# Altium integrated library Motorola Microcontroller 32-Bit.IntLib: 337 symbols (part 22 of 29)
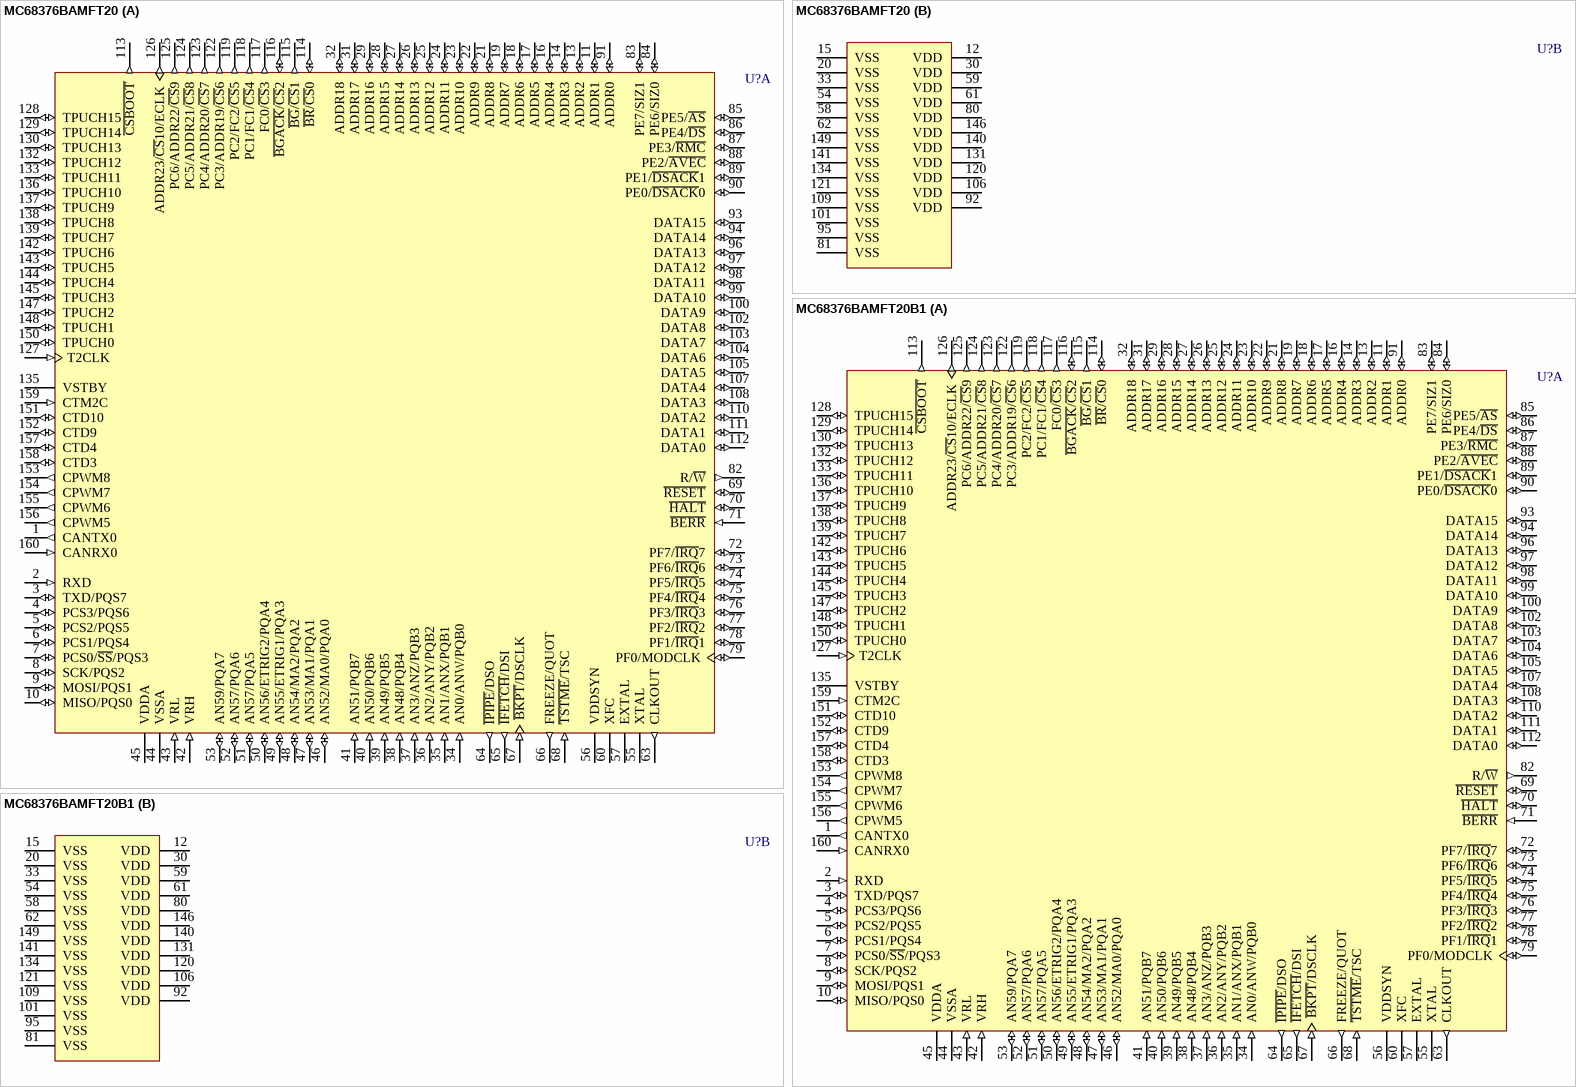
[diagram p260: symbols MC68376BAMFT20 to MC68376BAMFT20B1]

## MC68376BAMFT20
designator U?
32-Bit Microcontroller; Published: 21-Mar-2003; LatestRevisionDate: 13-Apr-2006; LatestRevisionNote: IPC-7351 Footprint Added.; DatasheetVersion: 15-Oct-2000; PackageVersion: 1996; PackageReference: 864A-03; Publisher: Altium Limited; PackageDescription: 160-Pin Plastic Quad Flat Pack 0.65 mm Pitch; Code_IPC: QFP65P3120X3120-160; ComponentLink1Description: Manufacturer Link; ComponentLink1URL: http://www.freescale.com/; ComponentLink2Description: Datasheet; ComponentLink2URL: http://www.freescale.com/files/microcontrollers/doc/data_sheet/MC683336_376UM_ZIP.zip
footprint 864A-03_N (QFP, 160-Leads, Body 28 x 28mm, Pitch 0.65mm, IPC Medium Density)
footprint 864A-03_L (QFP, 160-Leads, Body 28 x 28mm, Pitch 0.65mm, IPC High Density)
footprint 864A-03_M (QFP, 160-Leads, Body 28 x 28mm, Pitch 0.65mm, IPC Low Density)
3D model MC68376-864A-03 (160-Pin Plastic Quad Flat Pack 0.65 mm Pitch)
part A pins: 1 CANTX0 (out), 2 RXD (in), 3 TXD/PQS7 (io), 4 PCS3/PQS6 (io), 5 PCS2/PQS5 (io), 6 PCS1/PQS4 (io), 7 PCS0/~{SS}/PQS3 (io), 8 SCK/PQS2 (io), 9 MOSI/PQS1 (io), 10 MISO/PQS0 (io), 11 ADDR1 (io), 13 ADDR2 (io), 14 ADDR3 (io), 16 ADDR4 (io), 17 ADDR5 (io), 18 ADDR6 (io), 19 ADDR7 (io), 21 ADDR8 (io), 22 ADDR9 (io), 23 ADDR10 (io), 24 ADDR11 (io), 25 ADDR12 (io), 26 ADDR13 (io), 27 ADDR14 (io), 28 ADDR15 (io), 29 ADDR16 (io), 31 ADDR17 (io), 32 ADDR18 (io), 34 AN0/ANW/PQB0 (in), 35 AN1/ANX/PQB1 (in), 36 AN2/ANY/PQB2 (in), 37 AN3/ANZ/PQB3 (in), 38 AN48/PQB4 (in), 39 AN49/PQB5 (in), 40 AN50/PQB6 (in), 41 AN51/PQB7 (in), 42 VRH (in), 43 VRL (in), 44 VSSA (power), 45 VDDA (power), 46 AN52/MA0/PQA0 (io), 47 AN53/MA1/PQA1 (io), 48 AN54/MA2/PQA2 (io), 49 AN55/ETRIG1/PQA3 (io), 50 AN56/ETRIG2/PQA4 (io), 51 AN57/PQA5 (io), 52 AN57/PQA6 (io), 53 AN59/PQA7 (io), 55 XTAL, 56 VDDSYN (power), 57 EXTAL, 60 XFC, 63 CLKOUT (out), 64 ~{IPIPE}/DSO (out), 65 ~{IFETCH}/DSI (out), 66 FREEZE/QUOT (out), 67 ~{BKPT}/DSCLK (in), 68 ~{TSTME}/TSC (in), 69 ~{RESET} (io), 70 ~{HALT} (io), 71 ~{BERR} (in), 72 PF7/~{IRQ}7 (io), 73 PF6/~{IRQ}6 (io), 74 PF5/~{IRQ}5 (io), 75 PF4/~{IRQ}4 (io), 76 PF3/~{IRQ}3 (io), 77 PF2/~{IRQ}2 (io), 78 PF1/~{IRQ}1 (io), 79 PF0/MODCLK (io), 82 R/~{W} (out), 83 PE7/SIZ1 (io), 84 PE6/SIZ0 (io), 85 PE5/~{AS} (io), 86 PE4/~{DS} (io), 87 PE3/~{RMC} (io), 88 PE2/~{AVEC} (io), 89 PE1/~{DSACK}1 (io), 90 PE0/~{DSACK}0 (io), 91 ADDR0 (io), 93 DATA15 (io), 94 DATA14 (io), 96 DATA13 (io), 97 DATA12 (io), 98 DATA11 (io), 99 DATA10 (io), 100 DATA9 (io), 102 DATA8 (io), 103 DATA7 (io), 104 DATA6 (io), 105 DATA5 (io), 107 DATA4 (io), 108 DATA3 (io), 110 DATA2 (io), 111 DATA1 (io), 112 DATA0 (io), 113 ~{CSBOOT} (out), 114 ~{BR}/~{CS}0 (io), 115 ~{BG}/~{CS}1 (out), 116 ~{BGACK}/~{CS}2 (io), 117 FC0/~{CS}3 (out), 118 PC1/FC1/~{CS}4 (out), 119 PC2/FC2/~{CS}5 (out), 122 PC3/ADDR19/~{CS}6 (out), 123 PC4/ADDR20/~{CS}7 (out), 124 PC5/ADDR21/~{CS}8 (out), 125 PC6/ADDR22/~{CS}9 (out), 126 ADDR23/~{CS}10/ECLK (out), 127 T2CLK (in), 128 TPUCH15 (io), 129 TPUCH14 (io), 130 TPUCH13 (io), 132 TPUCH12 (io), 133 TPUCH11 (io), 135 VSTBY (power), 136 TPUCH10 (io), 137 TPUCH9 (io), 138 TPUCH8 (io), 139 TPUCH7 (io), 142 TPUCH6 (io), 143 TPUCH5 (io), 144 TPUCH4 (io), 145 TPUCH3 (io), 147 TPUCH2 (io), 148 TPUCH1 (io), 150 TPUCH0 (io), 151 CTD10 (io), 152 CTD9 (io), 153 CPWM8 (out), 154 CPWM7 (out), 155 CPWM6 (out), 156 CPWM5 (out), 157 CTD4 (io), 158 CTD3 (io), 159 CTM2C (in), 160 CANRX0 (in)
part B pins: 12 VDD (power), 15 VSS (power), 20 VSS (power), 30 VDD (power), 33 VSS (power), 54 VSS (power), 58 VSS (power), 59 VDD (power), 61 VDD (power), 62 VSS (power), 80 VDD (power), 81 VSS (power), 92 VDD (power), 95 VSS (power), 101 VSS (power), 106 VDD (power), 109 VSS (power), 120 VDD (power), 121 VSS (power), 131 VDD (power), 134 VSS (power), 140 VDD (power), 141 VSS (power), 146 VDD (power), 149 VSS (power)

## MC68376BAMFT20B1
designator U?
32-Bit Microcontroller; Published: 21-Mar-2003; LatestRevisionDate: 13-Apr-2006; LatestRevisionNote: IPC-7351 Footprint Added.; DatasheetVersion: 15-Oct-2000; PackageVersion: 1996; PackageReference: 864A-03; Publisher: Altium Limited; PackageDescription: 160-Pin Plastic Quad Flat Pack 0.65 mm Pitch; Code_IPC: QFP65P3120X3120-160; ComponentLink1Description: Manufacturer Link; ComponentLink1URL: http://www.freescale.com/; ComponentLink2Description: Datasheet; ComponentLink2URL: http://www.freescale.com/files/microcontrollers/doc/data_sheet/MC683336_376UM_ZIP.zip
footprint 864A-03_N (QFP, 160-Leads, Body 28 x 28mm, Pitch 0.65mm, IPC Medium Density)
footprint 864A-03_L (QFP, 160-Leads, Body 28 x 28mm, Pitch 0.65mm, IPC High Density)
footprint 864A-03_M (QFP, 160-Leads, Body 28 x 28mm, Pitch 0.65mm, IPC Low Density)
3D model MC68376-864A-03 (160-Pin Plastic Quad Flat Pack 0.65 mm Pitch)
part A pins: 1 CANTX0 (out), 2 RXD (in), 3 TXD/PQS7 (io), 4 PCS3/PQS6 (io), 5 PCS2/PQS5 (io), 6 PCS1/PQS4 (io), 7 PCS0/~{SS}/PQS3 (io), 8 SCK/PQS2 (io), 9 MOSI/PQS1 (io), 10 MISO/PQS0 (io), 11 ADDR1 (io), 13 ADDR2 (io), 14 ADDR3 (io), 16 ADDR4 (io), 17 ADDR5 (io), 18 ADDR6 (io), 19 ADDR7 (io), 21 ADDR8 (io), 22 ADDR9 (io), 23 ADDR10 (io), 24 ADDR11 (io), 25 ADDR12 (io), 26 ADDR13 (io), 27 ADDR14 (io), 28 ADDR15 (io), 29 ADDR16 (io), 31 ADDR17 (io), 32 ADDR18 (io), 34 AN0/ANW/PQB0 (in), 35 AN1/ANX/PQB1 (in), 36 AN2/ANY/PQB2 (in), 37 AN3/ANZ/PQB3 (in), 38 AN48/PQB4 (in), 39 AN49/PQB5 (in), 40 AN50/PQB6 (in), 41 AN51/PQB7 (in), 42 VRH (in), 43 VRL (in), 44 VSSA (power), 45 VDDA (power), 46 AN52/MA0/PQA0 (io), 47 AN53/MA1/PQA1 (io), 48 AN54/MA2/PQA2 (io), 49 AN55/ETRIG1/PQA3 (io), 50 AN56/ETRIG2/PQA4 (io), 51 AN57/PQA5 (io), 52 AN57/PQA6 (io), 53 AN59/PQA7 (io), 55 XTAL, 56 VDDSYN (power), 57 EXTAL, 60 XFC, 63 CLKOUT (out), 64 ~{IPIPE}/DSO (out), 65 ~{IFETCH}/DSI (out), 66 FREEZE/QUOT (out), 67 ~{BKPT}/DSCLK (in), 68 ~{TSTME}/TSC (in), 69 ~{RESET} (io), 70 ~{HALT} (io), 71 ~{BERR} (in), 72 PF7/~{IRQ}7 (io), 73 PF6/~{IRQ}6 (io), 74 PF5/~{IRQ}5 (io), 75 PF4/~{IRQ}4 (io), 76 PF3/~{IRQ}3 (io), 77 PF2/~{IRQ}2 (io), 78 PF1/~{IRQ}1 (io), 79 PF0/MODCLK (io), 82 R/~{W} (out), 83 PE7/SIZ1 (io), 84 PE6/SIZ0 (io), 85 PE5/~{AS} (io), 86 PE4/~{DS} (io), 87 PE3/~{RMC} (io), 88 PE2/~{AVEC} (io), 89 PE1/~{DSACK}1 (io), 90 PE0/~{DSACK}0 (io), 91 ADDR0 (io), 93 DATA15 (io), 94 DATA14 (io), 96 DATA13 (io), 97 DATA12 (io), 98 DATA11 (io), 99 DATA10 (io), 100 DATA9 (io), 102 DATA8 (io), 103 DATA7 (io), 104 DATA6 (io), 105 DATA5 (io), 107 DATA4 (io), 108 DATA3 (io), 110 DATA2 (io), 111 DATA1 (io), 112 DATA0 (io), 113 ~{CSBOOT} (out), 114 ~{BR}/~{CS}0 (io), 115 ~{BG}/~{CS}1 (out), 116 ~{BGACK}/~{CS}2 (io), 117 FC0/~{CS}3 (out), 118 PC1/FC1/~{CS}4 (out), 119 PC2/FC2/~{CS}5 (out), 122 PC3/ADDR19/~{CS}6 (out), 123 PC4/ADDR20/~{CS}7 (out), 124 PC5/ADDR21/~{CS}8 (out), 125 PC6/ADDR22/~{CS}9 (out), 126 ADDR23/~{CS}10/ECLK (out), 127 T2CLK (in), 128 TPUCH15 (io), 129 TPUCH14 (io), 130 TPUCH13 (io), 132 TPUCH12 (io), 133 TPUCH11 (io), 135 VSTBY (power), 136 TPUCH10 (io), 137 TPUCH9 (io), 138 TPUCH8 (io), 139 TPUCH7 (io), 142 TPUCH6 (io), 143 TPUCH5 (io), 144 TPUCH4 (io), 145 TPUCH3 (io), 147 TPUCH2 (io), 148 TPUCH1 (io), 150 TPUCH0 (io), 151 CTD10 (io), 152 CTD9 (io), 153 CPWM8 (out), 154 CPWM7 (out), 155 CPWM6 (out), 156 CPWM5 (out), 157 CTD4 (io), 158 CTD3 (io), 159 CTM2C (in), 160 CANRX0 (in)
part B pins: 12 VDD (power), 15 VSS (power), 20 VSS (power), 30 VDD (power), 33 VSS (power), 54 VSS (power), 58 VSS (power), 59 VDD (power), 61 VDD (power), 62 VSS (power), 80 VDD (power), 81 VSS (power), 92 VDD (power), 95 VSS (power), 101 VSS (power), 106 VDD (power), 109 VSS (power), 120 VDD (power), 121 VSS (power), 131 VDD (power), 134 VSS (power), 140 VDD (power), 141 VSS (power), 146 VDD (power), 149 VSS (power)

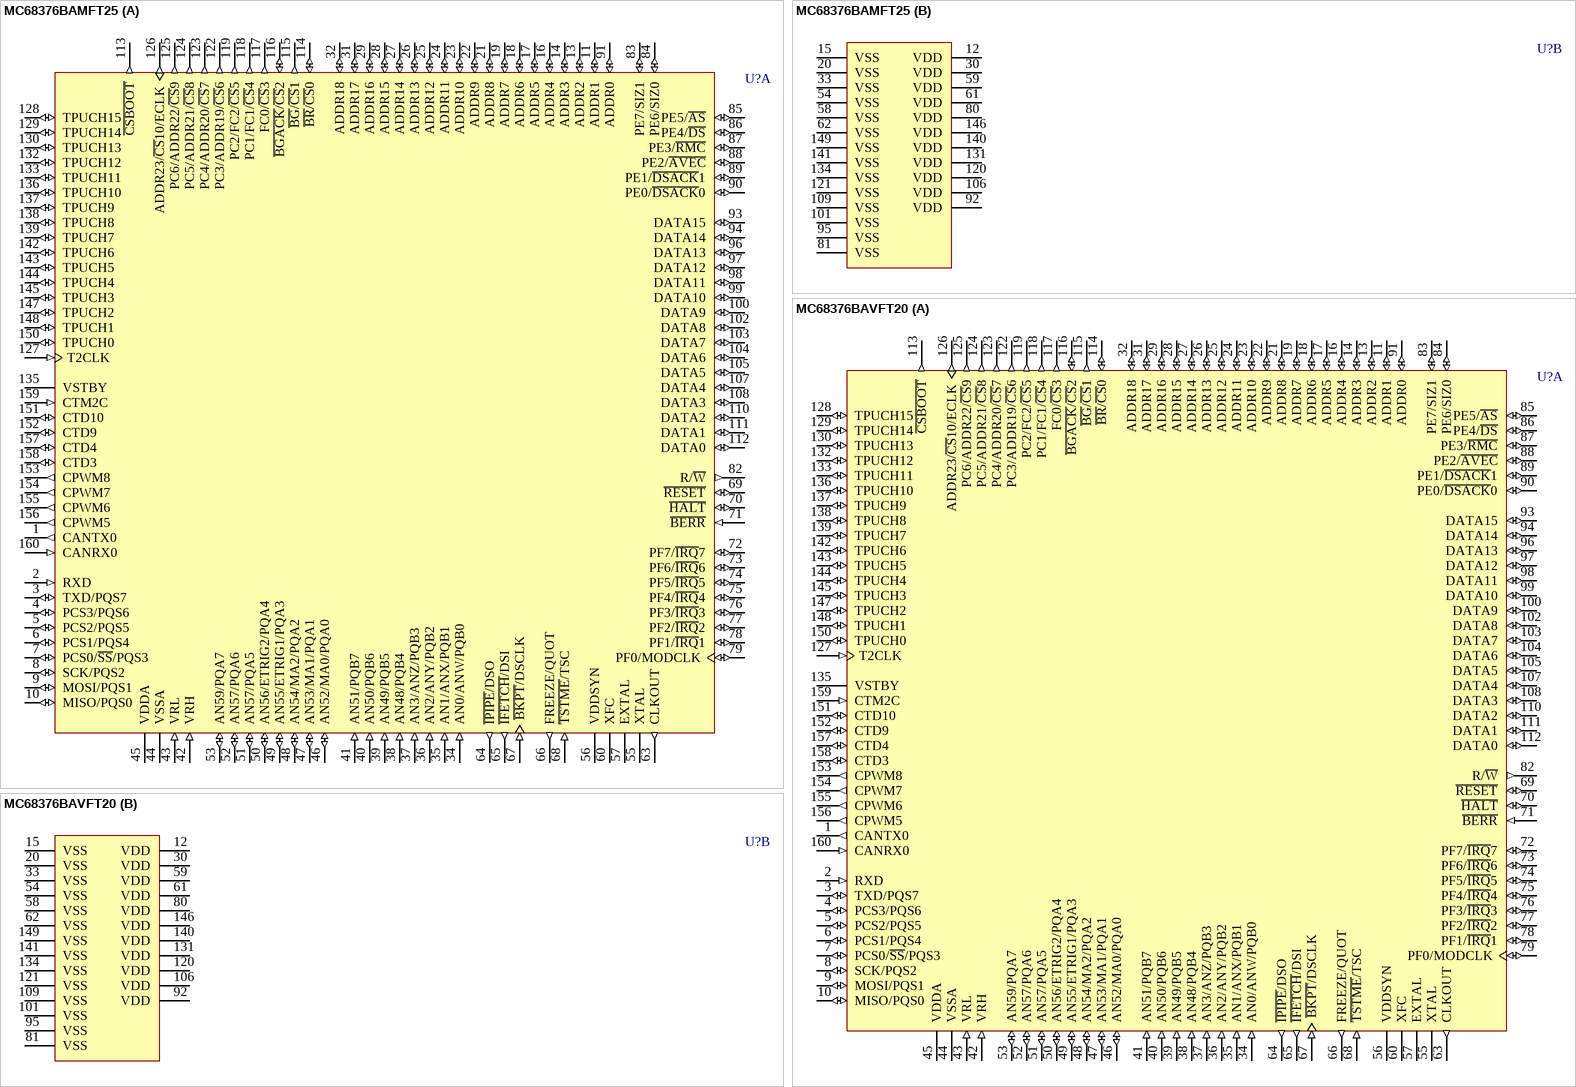
[diagram p185: symbols MC68376BAMFT25 to MC68376BAVFT20]

## MC68376BAMFT25
designator U?
32-Bit Microcontroller; Published: 21-Mar-2003; LatestRevisionDate: 13-Apr-2006; LatestRevisionNote: IPC-7351 Footprint Added.; DatasheetVersion: 15-Oct-2000; PackageVersion: 1996; PackageReference: 864A-03; Publisher: Altium Limited; PackageDescription: 160-Pin Plastic Quad Flat Pack 0.65 mm Pitch; Code_IPC: QFP65P3120X3120-160; ComponentLink1Description: Manufacturer Link; ComponentLink1URL: http://www.freescale.com/; ComponentLink2Description: Datasheet; ComponentLink2URL: http://www.freescale.com/files/microcontrollers/doc/data_sheet/MC683336_376UM_ZIP.zip
footprint 864A-03_N (QFP, 160-Leads, Body 28 x 28mm, Pitch 0.65mm, IPC Medium Density)
footprint 864A-03_L (QFP, 160-Leads, Body 28 x 28mm, Pitch 0.65mm, IPC High Density)
footprint 864A-03_M (QFP, 160-Leads, Body 28 x 28mm, Pitch 0.65mm, IPC Low Density)
3D model MC68376-864A-03 (160-Pin Plastic Quad Flat Pack 0.65 mm Pitch)
part A pins: 1 CANTX0 (out), 2 RXD (in), 3 TXD/PQS7 (io), 4 PCS3/PQS6 (io), 5 PCS2/PQS5 (io), 6 PCS1/PQS4 (io), 7 PCS0/~{SS}/PQS3 (io), 8 SCK/PQS2 (io), 9 MOSI/PQS1 (io), 10 MISO/PQS0 (io), 11 ADDR1 (io), 13 ADDR2 (io), 14 ADDR3 (io), 16 ADDR4 (io), 17 ADDR5 (io), 18 ADDR6 (io), 19 ADDR7 (io), 21 ADDR8 (io), 22 ADDR9 (io), 23 ADDR10 (io), 24 ADDR11 (io), 25 ADDR12 (io), 26 ADDR13 (io), 27 ADDR14 (io), 28 ADDR15 (io), 29 ADDR16 (io), 31 ADDR17 (io), 32 ADDR18 (io), 34 AN0/ANW/PQB0 (in), 35 AN1/ANX/PQB1 (in), 36 AN2/ANY/PQB2 (in), 37 AN3/ANZ/PQB3 (in), 38 AN48/PQB4 (in), 39 AN49/PQB5 (in), 40 AN50/PQB6 (in), 41 AN51/PQB7 (in), 42 VRH (in), 43 VRL (in), 44 VSSA (power), 45 VDDA (power), 46 AN52/MA0/PQA0 (io), 47 AN53/MA1/PQA1 (io), 48 AN54/MA2/PQA2 (io), 49 AN55/ETRIG1/PQA3 (io), 50 AN56/ETRIG2/PQA4 (io), 51 AN57/PQA5 (io), 52 AN57/PQA6 (io), 53 AN59/PQA7 (io), 55 XTAL, 56 VDDSYN (power), 57 EXTAL, 60 XFC, 63 CLKOUT (out), 64 ~{IPIPE}/DSO (out), 65 ~{IFETCH}/DSI (out), 66 FREEZE/QUOT (out), 67 ~{BKPT}/DSCLK (in), 68 ~{TSTME}/TSC (in), 69 ~{RESET} (io), 70 ~{HALT} (io), 71 ~{BERR} (in), 72 PF7/~{IRQ}7 (io), 73 PF6/~{IRQ}6 (io), 74 PF5/~{IRQ}5 (io), 75 PF4/~{IRQ}4 (io), 76 PF3/~{IRQ}3 (io), 77 PF2/~{IRQ}2 (io), 78 PF1/~{IRQ}1 (io), 79 PF0/MODCLK (io), 82 R/~{W} (out), 83 PE7/SIZ1 (io), 84 PE6/SIZ0 (io), 85 PE5/~{AS} (io), 86 PE4/~{DS} (io), 87 PE3/~{RMC} (io), 88 PE2/~{AVEC} (io), 89 PE1/~{DSACK}1 (io), 90 PE0/~{DSACK}0 (io), 91 ADDR0 (io), 93 DATA15 (io), 94 DATA14 (io), 96 DATA13 (io), 97 DATA12 (io), 98 DATA11 (io), 99 DATA10 (io), 100 DATA9 (io), 102 DATA8 (io), 103 DATA7 (io), 104 DATA6 (io), 105 DATA5 (io), 107 DATA4 (io), 108 DATA3 (io), 110 DATA2 (io), 111 DATA1 (io), 112 DATA0 (io), 113 ~{CSBOOT} (out), 114 ~{BR}/~{CS}0 (io), 115 ~{BG}/~{CS}1 (out), 116 ~{BGACK}/~{CS}2 (io), 117 FC0/~{CS}3 (out), 118 PC1/FC1/~{CS}4 (out), 119 PC2/FC2/~{CS}5 (out), 122 PC3/ADDR19/~{CS}6 (out), 123 PC4/ADDR20/~{CS}7 (out), 124 PC5/ADDR21/~{CS}8 (out), 125 PC6/ADDR22/~{CS}9 (out), 126 ADDR23/~{CS}10/ECLK (out), 127 T2CLK (in), 128 TPUCH15 (io), 129 TPUCH14 (io), 130 TPUCH13 (io), 132 TPUCH12 (io), 133 TPUCH11 (io), 135 VSTBY (power), 136 TPUCH10 (io), 137 TPUCH9 (io), 138 TPUCH8 (io), 139 TPUCH7 (io), 142 TPUCH6 (io), 143 TPUCH5 (io), 144 TPUCH4 (io), 145 TPUCH3 (io), 147 TPUCH2 (io), 148 TPUCH1 (io), 150 TPUCH0 (io), 151 CTD10 (io), 152 CTD9 (io), 153 CPWM8 (out), 154 CPWM7 (out), 155 CPWM6 (out), 156 CPWM5 (out), 157 CTD4 (io), 158 CTD3 (io), 159 CTM2C (in), 160 CANRX0 (in)
part B pins: 12 VDD (power), 15 VSS (power), 20 VSS (power), 30 VDD (power), 33 VSS (power), 54 VSS (power), 58 VSS (power), 59 VDD (power), 61 VDD (power), 62 VSS (power), 80 VDD (power), 81 VSS (power), 92 VDD (power), 95 VSS (power), 101 VSS (power), 106 VDD (power), 109 VSS (power), 120 VDD (power), 121 VSS (power), 131 VDD (power), 134 VSS (power), 140 VDD (power), 141 VSS (power), 146 VDD (power), 149 VSS (power)

## MC68376BAVFT20
designator U?
32-Bit Microcontroller; Published: 21-Mar-2003; LatestRevisionDate: 13-Apr-2006; LatestRevisionNote: IPC-7351 Footprint Added.; DatasheetVersion: 15-Oct-2000; PackageVersion: 1996; PackageReference: 864A-03; Publisher: Altium Limited; PackageDescription: 160-Pin Plastic Quad Flat Pack 0.65 mm Pitch; Code_IPC: QFP65P3120X3120-160; ComponentLink1Description: Manufacturer Link; ComponentLink1URL: http://www.freescale.com/; ComponentLink2Description: Datasheet; ComponentLink2URL: http://www.freescale.com/files/microcontrollers/doc/data_sheet/MC683336_376UM_ZIP.zip
footprint 864A-03_N (QFP, 160-Leads, Body 28 x 28mm, Pitch 0.65mm, IPC Medium Density)
footprint 864A-03_L (QFP, 160-Leads, Body 28 x 28mm, Pitch 0.65mm, IPC High Density)
footprint 864A-03_M (QFP, 160-Leads, Body 28 x 28mm, Pitch 0.65mm, IPC Low Density)
3D model MC68376-864A-03 (160-Pin Plastic Quad Flat Pack 0.65 mm Pitch)
part A pins: 1 CANTX0 (out), 2 RXD (in), 3 TXD/PQS7 (io), 4 PCS3/PQS6 (io), 5 PCS2/PQS5 (io), 6 PCS1/PQS4 (io), 7 PCS0/~{SS}/PQS3 (io), 8 SCK/PQS2 (io), 9 MOSI/PQS1 (io), 10 MISO/PQS0 (io), 11 ADDR1 (io), 13 ADDR2 (io), 14 ADDR3 (io), 16 ADDR4 (io), 17 ADDR5 (io), 18 ADDR6 (io), 19 ADDR7 (io), 21 ADDR8 (io), 22 ADDR9 (io), 23 ADDR10 (io), 24 ADDR11 (io), 25 ADDR12 (io), 26 ADDR13 (io), 27 ADDR14 (io), 28 ADDR15 (io), 29 ADDR16 (io), 31 ADDR17 (io), 32 ADDR18 (io), 34 AN0/ANW/PQB0 (in), 35 AN1/ANX/PQB1 (in), 36 AN2/ANY/PQB2 (in), 37 AN3/ANZ/PQB3 (in), 38 AN48/PQB4 (in), 39 AN49/PQB5 (in), 40 AN50/PQB6 (in), 41 AN51/PQB7 (in), 42 VRH (in), 43 VRL (in), 44 VSSA (power), 45 VDDA (power), 46 AN52/MA0/PQA0 (io), 47 AN53/MA1/PQA1 (io), 48 AN54/MA2/PQA2 (io), 49 AN55/ETRIG1/PQA3 (io), 50 AN56/ETRIG2/PQA4 (io), 51 AN57/PQA5 (io), 52 AN57/PQA6 (io), 53 AN59/PQA7 (io), 55 XTAL, 56 VDDSYN (power), 57 EXTAL, 60 XFC, 63 CLKOUT (out), 64 ~{IPIPE}/DSO (out), 65 ~{IFETCH}/DSI (out), 66 FREEZE/QUOT (out), 67 ~{BKPT}/DSCLK (in), 68 ~{TSTME}/TSC (in), 69 ~{RESET} (io), 70 ~{HALT} (io), 71 ~{BERR} (in), 72 PF7/~{IRQ}7 (io), 73 PF6/~{IRQ}6 (io), 74 PF5/~{IRQ}5 (io), 75 PF4/~{IRQ}4 (io), 76 PF3/~{IRQ}3 (io), 77 PF2/~{IRQ}2 (io), 78 PF1/~{IRQ}1 (io), 79 PF0/MODCLK (io), 82 R/~{W} (out), 83 PE7/SIZ1 (io), 84 PE6/SIZ0 (io), 85 PE5/~{AS} (io), 86 PE4/~{DS} (io), 87 PE3/~{RMC} (io), 88 PE2/~{AVEC} (io), 89 PE1/~{DSACK}1 (io), 90 PE0/~{DSACK}0 (io), 91 ADDR0 (io), 93 DATA15 (io), 94 DATA14 (io), 96 DATA13 (io), 97 DATA12 (io), 98 DATA11 (io), 99 DATA10 (io), 100 DATA9 (io), 102 DATA8 (io), 103 DATA7 (io), 104 DATA6 (io), 105 DATA5 (io), 107 DATA4 (io), 108 DATA3 (io), 110 DATA2 (io), 111 DATA1 (io), 112 DATA0 (io), 113 ~{CSBOOT} (out), 114 ~{BR}/~{CS}0 (io), 115 ~{BG}/~{CS}1 (out), 116 ~{BGACK}/~{CS}2 (io), 117 FC0/~{CS}3 (out), 118 PC1/FC1/~{CS}4 (out), 119 PC2/FC2/~{CS}5 (out), 122 PC3/ADDR19/~{CS}6 (out), 123 PC4/ADDR20/~{CS}7 (out), 124 PC5/ADDR21/~{CS}8 (out), 125 PC6/ADDR22/~{CS}9 (out), 126 ADDR23/~{CS}10/ECLK (out), 127 T2CLK (in), 128 TPUCH15 (io), 129 TPUCH14 (io), 130 TPUCH13 (io), 132 TPUCH12 (io), 133 TPUCH11 (io), 135 VSTBY (power), 136 TPUCH10 (io), 137 TPUCH9 (io), 138 TPUCH8 (io), 139 TPUCH7 (io), 142 TPUCH6 (io), 143 TPUCH5 (io), 144 TPUCH4 (io), 145 TPUCH3 (io), 147 TPUCH2 (io), 148 TPUCH1 (io), 150 TPUCH0 (io), 151 CTD10 (io), 152 CTD9 (io), 153 CPWM8 (out), 154 CPWM7 (out), 155 CPWM6 (out), 156 CPWM5 (out), 157 CTD4 (io), 158 CTD3 (io), 159 CTM2C (in), 160 CANRX0 (in)
part B pins: 12 VDD (power), 15 VSS (power), 20 VSS (power), 30 VDD (power), 33 VSS (power), 54 VSS (power), 58 VSS (power), 59 VDD (power), 61 VDD (power), 62 VSS (power), 80 VDD (power), 81 VSS (power), 92 VDD (power), 95 VSS (power), 101 VSS (power), 106 VDD (power), 109 VSS (power), 120 VDD (power), 121 VSS (power), 131 VDD (power), 134 VSS (power), 140 VDD (power), 141 VSS (power), 146 VDD (power), 149 VSS (power)

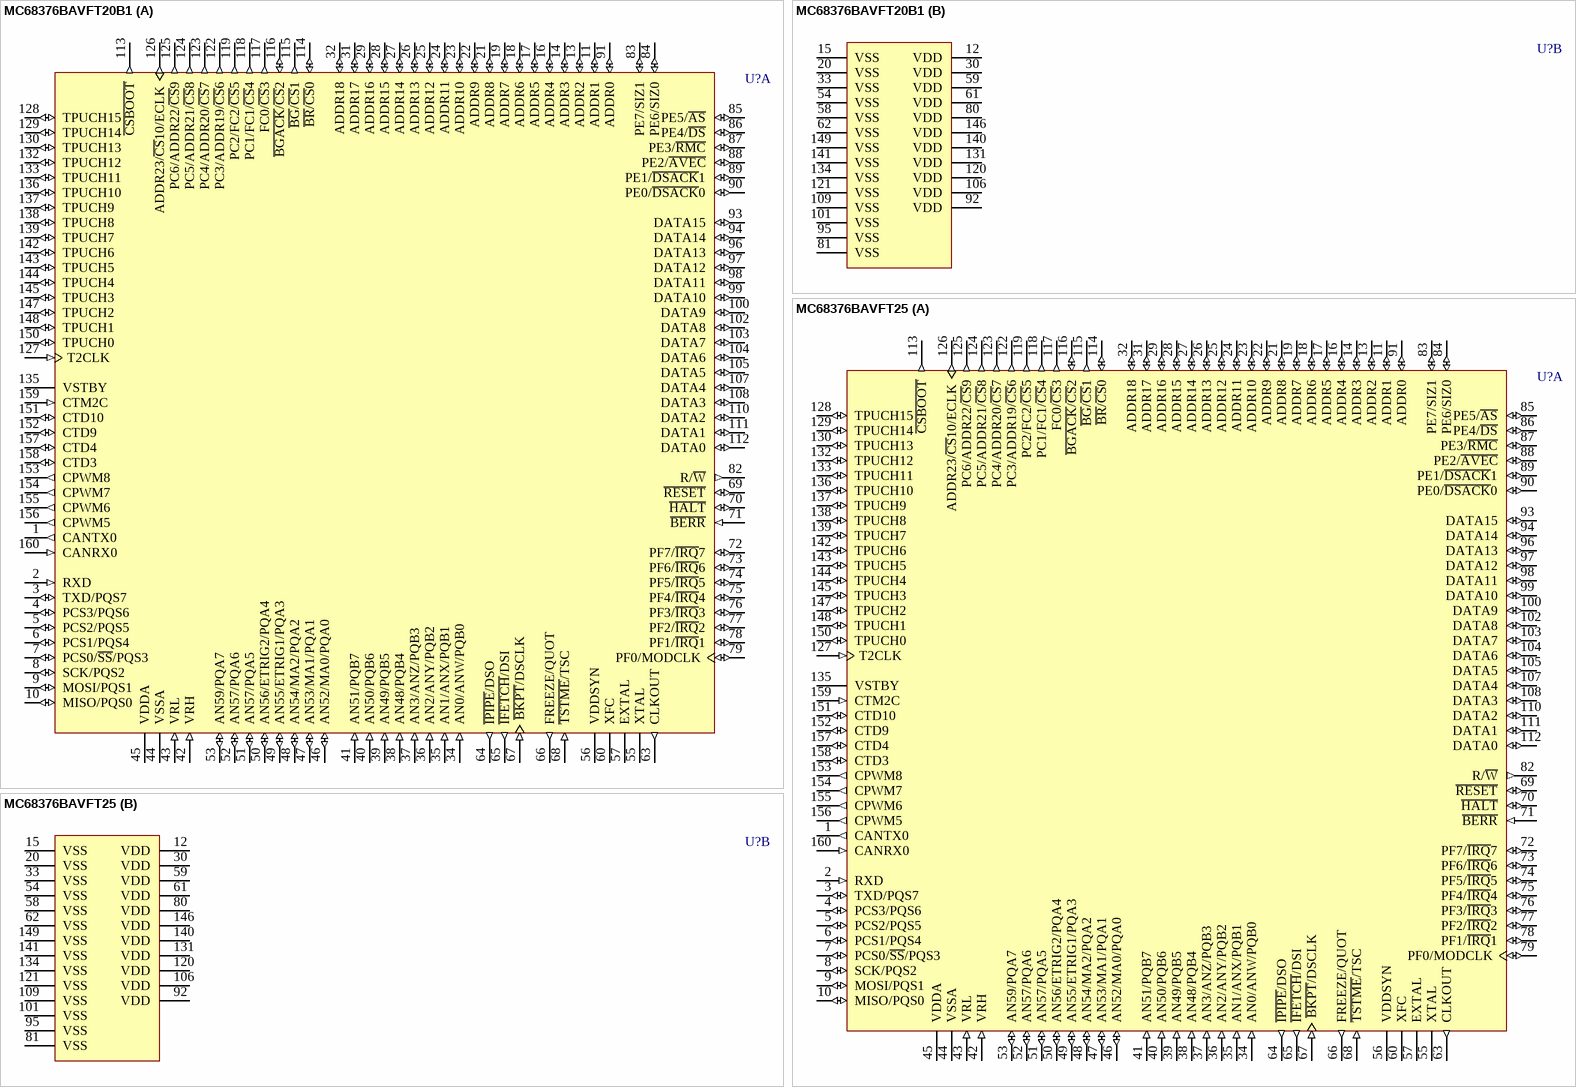
[diagram p186: symbols MC68376BAVFT20B1 to MC68376BAVFT25]

## MC68376BAVFT20B1
designator U?
32-Bit Microcontroller; Published: 21-Mar-2003; LatestRevisionDate: 13-Apr-2006; LatestRevisionNote: IPC-7351 Footprint Added.; DatasheetVersion: 15-Oct-2000; PackageVersion: 1996; PackageReference: 864A-03; Publisher: Altium Limited; PackageDescription: 160-Pin Plastic Quad Flat Pack 0.65 mm Pitch; Code_IPC: QFP65P3120X3120-160; ComponentLink1Description: Manufacturer Link; ComponentLink1URL: http://www.freescale.com/; ComponentLink2Description: Datasheet; ComponentLink2URL: http://www.freescale.com/files/microcontrollers/doc/data_sheet/MC683336_376UM_ZIP.zip
footprint 864A-03_N (QFP, 160-Leads, Body 28 x 28mm, Pitch 0.65mm, IPC Medium Density)
footprint 864A-03_L (QFP, 160-Leads, Body 28 x 28mm, Pitch 0.65mm, IPC High Density)
footprint 864A-03_M (QFP, 160-Leads, Body 28 x 28mm, Pitch 0.65mm, IPC Low Density)
3D model MC68376-864A-03 (160-Pin Plastic Quad Flat Pack 0.65 mm Pitch)
part A pins: 1 CANTX0 (out), 2 RXD (in), 3 TXD/PQS7 (io), 4 PCS3/PQS6 (io), 5 PCS2/PQS5 (io), 6 PCS1/PQS4 (io), 7 PCS0/~{SS}/PQS3 (io), 8 SCK/PQS2 (io), 9 MOSI/PQS1 (io), 10 MISO/PQS0 (io), 11 ADDR1 (io), 13 ADDR2 (io), 14 ADDR3 (io), 16 ADDR4 (io), 17 ADDR5 (io), 18 ADDR6 (io), 19 ADDR7 (io), 21 ADDR8 (io), 22 ADDR9 (io), 23 ADDR10 (io), 24 ADDR11 (io), 25 ADDR12 (io), 26 ADDR13 (io), 27 ADDR14 (io), 28 ADDR15 (io), 29 ADDR16 (io), 31 ADDR17 (io), 32 ADDR18 (io), 34 AN0/ANW/PQB0 (in), 35 AN1/ANX/PQB1 (in), 36 AN2/ANY/PQB2 (in), 37 AN3/ANZ/PQB3 (in), 38 AN48/PQB4 (in), 39 AN49/PQB5 (in), 40 AN50/PQB6 (in), 41 AN51/PQB7 (in), 42 VRH (in), 43 VRL (in), 44 VSSA (power), 45 VDDA (power), 46 AN52/MA0/PQA0 (io), 47 AN53/MA1/PQA1 (io), 48 AN54/MA2/PQA2 (io), 49 AN55/ETRIG1/PQA3 (io), 50 AN56/ETRIG2/PQA4 (io), 51 AN57/PQA5 (io), 52 AN57/PQA6 (io), 53 AN59/PQA7 (io), 55 XTAL, 56 VDDSYN (power), 57 EXTAL, 60 XFC, 63 CLKOUT (out), 64 ~{IPIPE}/DSO (out), 65 ~{IFETCH}/DSI (out), 66 FREEZE/QUOT (out), 67 ~{BKPT}/DSCLK (in), 68 ~{TSTME}/TSC (in), 69 ~{RESET} (io), 70 ~{HALT} (io), 71 ~{BERR} (in), 72 PF7/~{IRQ}7 (io), 73 PF6/~{IRQ}6 (io), 74 PF5/~{IRQ}5 (io), 75 PF4/~{IRQ}4 (io), 76 PF3/~{IRQ}3 (io), 77 PF2/~{IRQ}2 (io), 78 PF1/~{IRQ}1 (io), 79 PF0/MODCLK (io), 82 R/~{W} (out), 83 PE7/SIZ1 (io), 84 PE6/SIZ0 (io), 85 PE5/~{AS} (io), 86 PE4/~{DS} (io), 87 PE3/~{RMC} (io), 88 PE2/~{AVEC} (io), 89 PE1/~{DSACK}1 (io), 90 PE0/~{DSACK}0 (io), 91 ADDR0 (io), 93 DATA15 (io), 94 DATA14 (io), 96 DATA13 (io), 97 DATA12 (io), 98 DATA11 (io), 99 DATA10 (io), 100 DATA9 (io), 102 DATA8 (io), 103 DATA7 (io), 104 DATA6 (io), 105 DATA5 (io), 107 DATA4 (io), 108 DATA3 (io), 110 DATA2 (io), 111 DATA1 (io), 112 DATA0 (io), 113 ~{CSBOOT} (out), 114 ~{BR}/~{CS}0 (io), 115 ~{BG}/~{CS}1 (out), 116 ~{BGACK}/~{CS}2 (io), 117 FC0/~{CS}3 (out), 118 PC1/FC1/~{CS}4 (out), 119 PC2/FC2/~{CS}5 (out), 122 PC3/ADDR19/~{CS}6 (out), 123 PC4/ADDR20/~{CS}7 (out), 124 PC5/ADDR21/~{CS}8 (out), 125 PC6/ADDR22/~{CS}9 (out), 126 ADDR23/~{CS}10/ECLK (out), 127 T2CLK (in), 128 TPUCH15 (io), 129 TPUCH14 (io), 130 TPUCH13 (io), 132 TPUCH12 (io), 133 TPUCH11 (io), 135 VSTBY (power), 136 TPUCH10 (io), 137 TPUCH9 (io), 138 TPUCH8 (io), 139 TPUCH7 (io), 142 TPUCH6 (io), 143 TPUCH5 (io), 144 TPUCH4 (io), 145 TPUCH3 (io), 147 TPUCH2 (io), 148 TPUCH1 (io), 150 TPUCH0 (io), 151 CTD10 (io), 152 CTD9 (io), 153 CPWM8 (out), 154 CPWM7 (out), 155 CPWM6 (out), 156 CPWM5 (out), 157 CTD4 (io), 158 CTD3 (io), 159 CTM2C (in), 160 CANRX0 (in)
part B pins: 12 VDD (power), 15 VSS (power), 20 VSS (power), 30 VDD (power), 33 VSS (power), 54 VSS (power), 58 VSS (power), 59 VDD (power), 61 VDD (power), 62 VSS (power), 80 VDD (power), 81 VSS (power), 92 VDD (power), 95 VSS (power), 101 VSS (power), 106 VDD (power), 109 VSS (power), 120 VDD (power), 121 VSS (power), 131 VDD (power), 134 VSS (power), 140 VDD (power), 141 VSS (power), 146 VDD (power), 149 VSS (power)

## MC68376BAVFT25
designator U?
32-Bit Microcontroller; Published: 21-Mar-2003; LatestRevisionDate: 13-Apr-2006; LatestRevisionNote: IPC-7351 Footprint Added.; DatasheetVersion: 15-Oct-2000; PackageVersion: 1996; PackageReference: 864A-03; Publisher: Altium Limited; PackageDescription: 160-Pin Plastic Quad Flat Pack 0.65 mm Pitch; Code_IPC: QFP65P3120X3120-160; ComponentLink1Description: Manufacturer Link; ComponentLink1URL: http://www.freescale.com/; ComponentLink2Description: Datasheet; ComponentLink2URL: http://www.freescale.com/files/microcontrollers/doc/data_sheet/MC683336_376UM_ZIP.zip
footprint 864A-03_N (QFP, 160-Leads, Body 28 x 28mm, Pitch 0.65mm, IPC Medium Density)
footprint 864A-03_L (QFP, 160-Leads, Body 28 x 28mm, Pitch 0.65mm, IPC High Density)
footprint 864A-03_M (QFP, 160-Leads, Body 28 x 28mm, Pitch 0.65mm, IPC Low Density)
3D model MC68376-864A-03 (160-Pin Plastic Quad Flat Pack 0.65 mm Pitch)
part A pins: 1 CANTX0 (out), 2 RXD (in), 3 TXD/PQS7 (io), 4 PCS3/PQS6 (io), 5 PCS2/PQS5 (io), 6 PCS1/PQS4 (io), 7 PCS0/~{SS}/PQS3 (io), 8 SCK/PQS2 (io), 9 MOSI/PQS1 (io), 10 MISO/PQS0 (io), 11 ADDR1 (io), 13 ADDR2 (io), 14 ADDR3 (io), 16 ADDR4 (io), 17 ADDR5 (io), 18 ADDR6 (io), 19 ADDR7 (io), 21 ADDR8 (io), 22 ADDR9 (io), 23 ADDR10 (io), 24 ADDR11 (io), 25 ADDR12 (io), 26 ADDR13 (io), 27 ADDR14 (io), 28 ADDR15 (io), 29 ADDR16 (io), 31 ADDR17 (io), 32 ADDR18 (io), 34 AN0/ANW/PQB0 (in), 35 AN1/ANX/PQB1 (in), 36 AN2/ANY/PQB2 (in), 37 AN3/ANZ/PQB3 (in), 38 AN48/PQB4 (in), 39 AN49/PQB5 (in), 40 AN50/PQB6 (in), 41 AN51/PQB7 (in), 42 VRH (in), 43 VRL (in), 44 VSSA (power), 45 VDDA (power), 46 AN52/MA0/PQA0 (io), 47 AN53/MA1/PQA1 (io), 48 AN54/MA2/PQA2 (io), 49 AN55/ETRIG1/PQA3 (io), 50 AN56/ETRIG2/PQA4 (io), 51 AN57/PQA5 (io), 52 AN57/PQA6 (io), 53 AN59/PQA7 (io), 55 XTAL, 56 VDDSYN (power), 57 EXTAL, 60 XFC, 63 CLKOUT (out), 64 ~{IPIPE}/DSO (out), 65 ~{IFETCH}/DSI (out), 66 FREEZE/QUOT (out), 67 ~{BKPT}/DSCLK (in), 68 ~{TSTME}/TSC (in), 69 ~{RESET} (io), 70 ~{HALT} (io), 71 ~{BERR} (in), 72 PF7/~{IRQ}7 (io), 73 PF6/~{IRQ}6 (io), 74 PF5/~{IRQ}5 (io), 75 PF4/~{IRQ}4 (io), 76 PF3/~{IRQ}3 (io), 77 PF2/~{IRQ}2 (io), 78 PF1/~{IRQ}1 (io), 79 PF0/MODCLK (io), 82 R/~{W} (out), 83 PE7/SIZ1 (io), 84 PE6/SIZ0 (io), 85 PE5/~{AS} (io), 86 PE4/~{DS} (io), 87 PE3/~{RMC} (io), 88 PE2/~{AVEC} (io), 89 PE1/~{DSACK}1 (io), 90 PE0/~{DSACK}0 (io), 91 ADDR0 (io), 93 DATA15 (io), 94 DATA14 (io), 96 DATA13 (io), 97 DATA12 (io), 98 DATA11 (io), 99 DATA10 (io), 100 DATA9 (io), 102 DATA8 (io), 103 DATA7 (io), 104 DATA6 (io), 105 DATA5 (io), 107 DATA4 (io), 108 DATA3 (io), 110 DATA2 (io), 111 DATA1 (io), 112 DATA0 (io), 113 ~{CSBOOT} (out), 114 ~{BR}/~{CS}0 (io), 115 ~{BG}/~{CS}1 (out), 116 ~{BGACK}/~{CS}2 (io), 117 FC0/~{CS}3 (out), 118 PC1/FC1/~{CS}4 (out), 119 PC2/FC2/~{CS}5 (out), 122 PC3/ADDR19/~{CS}6 (out), 123 PC4/ADDR20/~{CS}7 (out), 124 PC5/ADDR21/~{CS}8 (out), 125 PC6/ADDR22/~{CS}9 (out), 126 ADDR23/~{CS}10/ECLK (out), 127 T2CLK (in), 128 TPUCH15 (io), 129 TPUCH14 (io), 130 TPUCH13 (io), 132 TPUCH12 (io), 133 TPUCH11 (io), 135 VSTBY (power), 136 TPUCH10 (io), 137 TPUCH9 (io), 138 TPUCH8 (io), 139 TPUCH7 (io), 142 TPUCH6 (io), 143 TPUCH5 (io), 144 TPUCH4 (io), 145 TPUCH3 (io), 147 TPUCH2 (io), 148 TPUCH1 (io), 150 TPUCH0 (io), 151 CTD10 (io), 152 CTD9 (io), 153 CPWM8 (out), 154 CPWM7 (out), 155 CPWM6 (out), 156 CPWM5 (out), 157 CTD4 (io), 158 CTD3 (io), 159 CTM2C (in), 160 CANRX0 (in)
part B pins: 12 VDD (power), 15 VSS (power), 20 VSS (power), 30 VDD (power), 33 VSS (power), 54 VSS (power), 58 VSS (power), 59 VDD (power), 61 VDD (power), 62 VSS (power), 80 VDD (power), 81 VSS (power), 92 VDD (power), 95 VSS (power), 101 VSS (power), 106 VDD (power), 109 VSS (power), 120 VDD (power), 121 VSS (power), 131 VDD (power), 134 VSS (power), 140 VDD (power), 141 VSS (power), 146 VDD (power), 149 VSS (power)

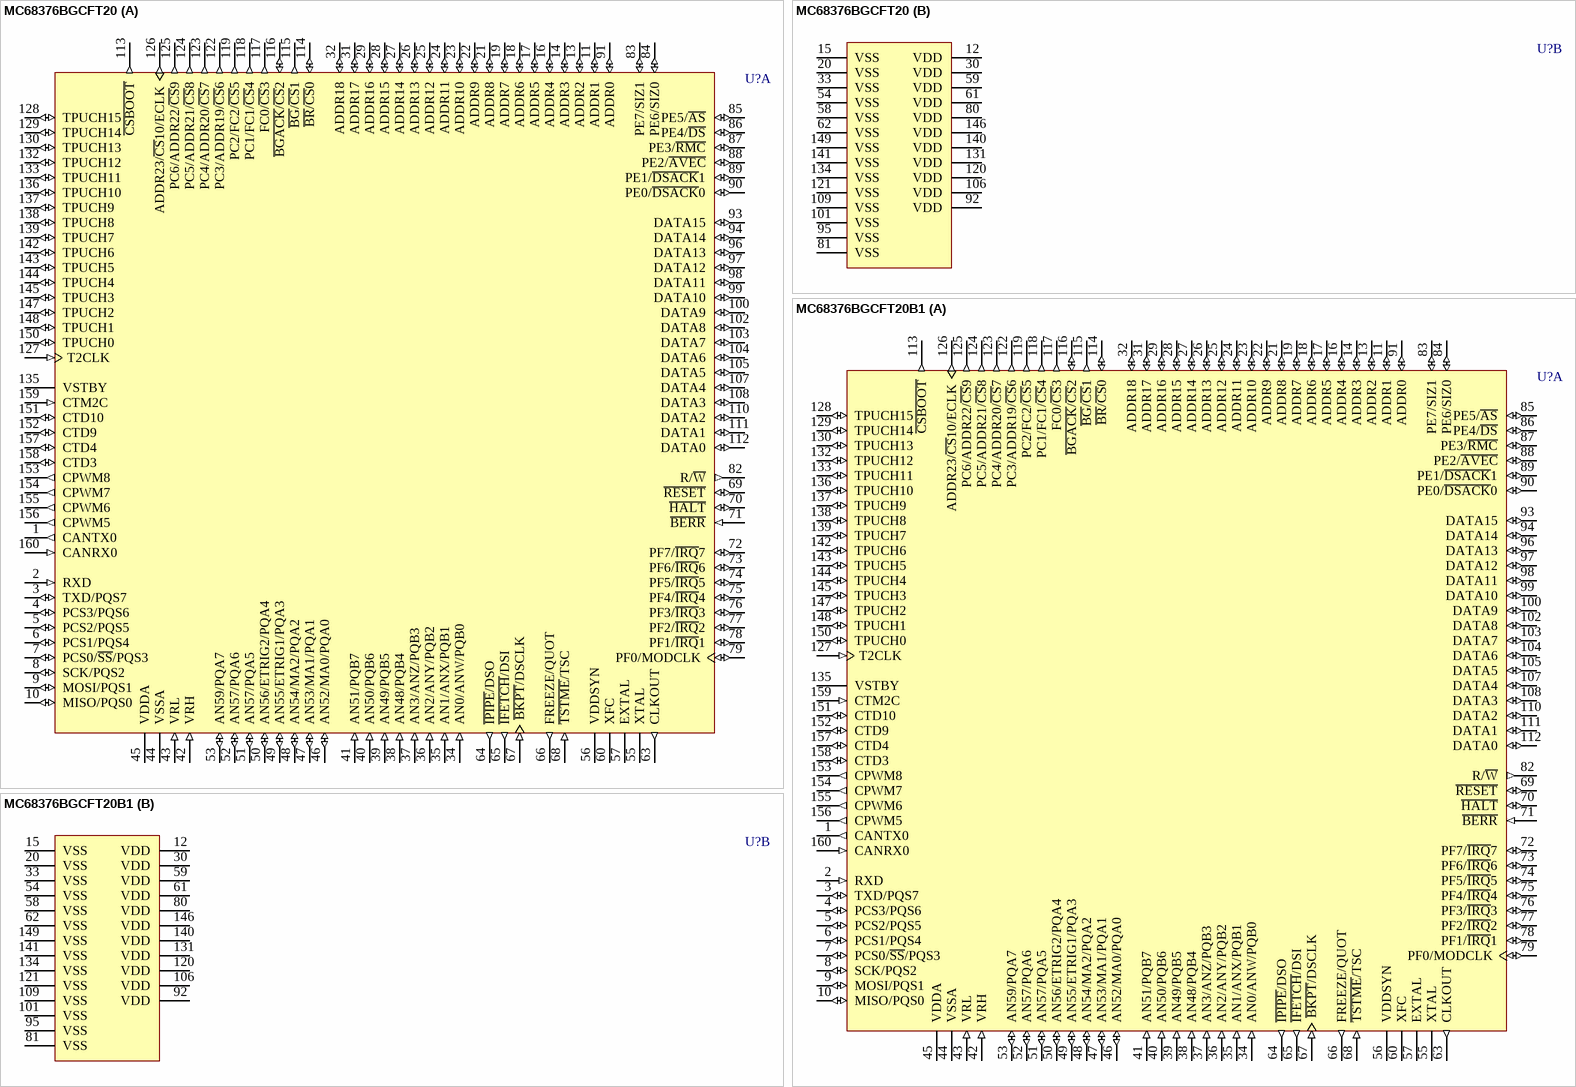
[diagram p187: symbols MC68376BGCFT20 to MC68376BGCFT20B1]

## MC68376BGCFT20
designator U?
32-Bit Microcontroller; Published: 21-Mar-2003; LatestRevisionDate: 13-Apr-2006; LatestRevisionNote: IPC-7351 Footprint Added.; DatasheetVersion: 15-Oct-2000; PackageVersion: 1996; PackageReference: 864A-03; Publisher: Altium Limited; PackageDescription: 160-Pin Plastic Quad Flat Pack 0.65 mm Pitch; Code_IPC: QFP65P3120X3120-160; ComponentLink1Description: Manufacturer Link; ComponentLink1URL: http://www.freescale.com/; ComponentLink2Description: Datasheet; ComponentLink2URL: http://www.freescale.com/files/microcontrollers/doc/data_sheet/MC683336_376UM_ZIP.zip
footprint 864A-03_N (QFP, 160-Leads, Body 28 x 28mm, Pitch 0.65mm, IPC Medium Density)
footprint 864A-03_L (QFP, 160-Leads, Body 28 x 28mm, Pitch 0.65mm, IPC High Density)
footprint 864A-03_M (QFP, 160-Leads, Body 28 x 28mm, Pitch 0.65mm, IPC Low Density)
3D model MC68376-864A-03 (160-Pin Plastic Quad Flat Pack 0.65 mm Pitch)
part A pins: 1 CANTX0 (out), 2 RXD (in), 3 TXD/PQS7 (io), 4 PCS3/PQS6 (io), 5 PCS2/PQS5 (io), 6 PCS1/PQS4 (io), 7 PCS0/~{SS}/PQS3 (io), 8 SCK/PQS2 (io), 9 MOSI/PQS1 (io), 10 MISO/PQS0 (io), 11 ADDR1 (io), 13 ADDR2 (io), 14 ADDR3 (io), 16 ADDR4 (io), 17 ADDR5 (io), 18 ADDR6 (io), 19 ADDR7 (io), 21 ADDR8 (io), 22 ADDR9 (io), 23 ADDR10 (io), 24 ADDR11 (io), 25 ADDR12 (io), 26 ADDR13 (io), 27 ADDR14 (io), 28 ADDR15 (io), 29 ADDR16 (io), 31 ADDR17 (io), 32 ADDR18 (io), 34 AN0/ANW/PQB0 (in), 35 AN1/ANX/PQB1 (in), 36 AN2/ANY/PQB2 (in), 37 AN3/ANZ/PQB3 (in), 38 AN48/PQB4 (in), 39 AN49/PQB5 (in), 40 AN50/PQB6 (in), 41 AN51/PQB7 (in), 42 VRH (in), 43 VRL (in), 44 VSSA (power), 45 VDDA (power), 46 AN52/MA0/PQA0 (io), 47 AN53/MA1/PQA1 (io), 48 AN54/MA2/PQA2 (io), 49 AN55/ETRIG1/PQA3 (io), 50 AN56/ETRIG2/PQA4 (io), 51 AN57/PQA5 (io), 52 AN57/PQA6 (io), 53 AN59/PQA7 (io), 55 XTAL, 56 VDDSYN (power), 57 EXTAL, 60 XFC, 63 CLKOUT (out), 64 ~{IPIPE}/DSO (out), 65 ~{IFETCH}/DSI (out), 66 FREEZE/QUOT (out), 67 ~{BKPT}/DSCLK (in), 68 ~{TSTME}/TSC (in), 69 ~{RESET} (io), 70 ~{HALT} (io), 71 ~{BERR} (in), 72 PF7/~{IRQ}7 (io), 73 PF6/~{IRQ}6 (io), 74 PF5/~{IRQ}5 (io), 75 PF4/~{IRQ}4 (io), 76 PF3/~{IRQ}3 (io), 77 PF2/~{IRQ}2 (io), 78 PF1/~{IRQ}1 (io), 79 PF0/MODCLK (io), 82 R/~{W} (out), 83 PE7/SIZ1 (io), 84 PE6/SIZ0 (io), 85 PE5/~{AS} (io), 86 PE4/~{DS} (io), 87 PE3/~{RMC} (io), 88 PE2/~{AVEC} (io), 89 PE1/~{DSACK}1 (io), 90 PE0/~{DSACK}0 (io), 91 ADDR0 (io), 93 DATA15 (io), 94 DATA14 (io), 96 DATA13 (io), 97 DATA12 (io), 98 DATA11 (io), 99 DATA10 (io), 100 DATA9 (io), 102 DATA8 (io), 103 DATA7 (io), 104 DATA6 (io), 105 DATA5 (io), 107 DATA4 (io), 108 DATA3 (io), 110 DATA2 (io), 111 DATA1 (io), 112 DATA0 (io), 113 ~{CSBOOT} (out), 114 ~{BR}/~{CS}0 (io), 115 ~{BG}/~{CS}1 (out), 116 ~{BGACK}/~{CS}2 (io), 117 FC0/~{CS}3 (out), 118 PC1/FC1/~{CS}4 (out), 119 PC2/FC2/~{CS}5 (out), 122 PC3/ADDR19/~{CS}6 (out), 123 PC4/ADDR20/~{CS}7 (out), 124 PC5/ADDR21/~{CS}8 (out), 125 PC6/ADDR22/~{CS}9 (out), 126 ADDR23/~{CS}10/ECLK (out), 127 T2CLK (in), 128 TPUCH15 (io), 129 TPUCH14 (io), 130 TPUCH13 (io), 132 TPUCH12 (io), 133 TPUCH11 (io), 135 VSTBY (power), 136 TPUCH10 (io), 137 TPUCH9 (io), 138 TPUCH8 (io), 139 TPUCH7 (io), 142 TPUCH6 (io), 143 TPUCH5 (io), 144 TPUCH4 (io), 145 TPUCH3 (io), 147 TPUCH2 (io), 148 TPUCH1 (io), 150 TPUCH0 (io), 151 CTD10 (io), 152 CTD9 (io), 153 CPWM8 (out), 154 CPWM7 (out), 155 CPWM6 (out), 156 CPWM5 (out), 157 CTD4 (io), 158 CTD3 (io), 159 CTM2C (in), 160 CANRX0 (in)
part B pins: 12 VDD (power), 15 VSS (power), 20 VSS (power), 30 VDD (power), 33 VSS (power), 54 VSS (power), 58 VSS (power), 59 VDD (power), 61 VDD (power), 62 VSS (power), 80 VDD (power), 81 VSS (power), 92 VDD (power), 95 VSS (power), 101 VSS (power), 106 VDD (power), 109 VSS (power), 120 VDD (power), 121 VSS (power), 131 VDD (power), 134 VSS (power), 140 VDD (power), 141 VSS (power), 146 VDD (power), 149 VSS (power)

## MC68376BGCFT20B1
designator U?
32-Bit Microcontroller; Published: 21-Mar-2003; LatestRevisionDate: 13-Apr-2006; LatestRevisionNote: IPC-7351 Footprint Added.; DatasheetVersion: 15-Oct-2000; PackageVersion: 1996; PackageReference: 864A-03; Publisher: Altium Limited; PackageDescription: 160-Pin Plastic Quad Flat Pack 0.65 mm Pitch; Code_IPC: QFP65P3120X3120-160; ComponentLink1Description: Manufacturer Link; ComponentLink1URL: http://www.freescale.com/; ComponentLink2Description: Datasheet; ComponentLink2URL: http://www.freescale.com/files/microcontrollers/doc/data_sheet/MC683336_376UM_ZIP.zip
footprint 864A-03_N (QFP, 160-Leads, Body 28 x 28mm, Pitch 0.65mm, IPC Medium Density)
footprint 864A-03_L (QFP, 160-Leads, Body 28 x 28mm, Pitch 0.65mm, IPC High Density)
footprint 864A-03_M (QFP, 160-Leads, Body 28 x 28mm, Pitch 0.65mm, IPC Low Density)
3D model MC68376-864A-03 (160-Pin Plastic Quad Flat Pack 0.65 mm Pitch)
part A pins: 1 CANTX0 (out), 2 RXD (in), 3 TXD/PQS7 (io), 4 PCS3/PQS6 (io), 5 PCS2/PQS5 (io), 6 PCS1/PQS4 (io), 7 PCS0/~{SS}/PQS3 (io), 8 SCK/PQS2 (io), 9 MOSI/PQS1 (io), 10 MISO/PQS0 (io), 11 ADDR1 (io), 13 ADDR2 (io), 14 ADDR3 (io), 16 ADDR4 (io), 17 ADDR5 (io), 18 ADDR6 (io), 19 ADDR7 (io), 21 ADDR8 (io), 22 ADDR9 (io), 23 ADDR10 (io), 24 ADDR11 (io), 25 ADDR12 (io), 26 ADDR13 (io), 27 ADDR14 (io), 28 ADDR15 (io), 29 ADDR16 (io), 31 ADDR17 (io), 32 ADDR18 (io), 34 AN0/ANW/PQB0 (in), 35 AN1/ANX/PQB1 (in), 36 AN2/ANY/PQB2 (in), 37 AN3/ANZ/PQB3 (in), 38 AN48/PQB4 (in), 39 AN49/PQB5 (in), 40 AN50/PQB6 (in), 41 AN51/PQB7 (in), 42 VRH (in), 43 VRL (in), 44 VSSA (power), 45 VDDA (power), 46 AN52/MA0/PQA0 (io), 47 AN53/MA1/PQA1 (io), 48 AN54/MA2/PQA2 (io), 49 AN55/ETRIG1/PQA3 (io), 50 AN56/ETRIG2/PQA4 (io), 51 AN57/PQA5 (io), 52 AN57/PQA6 (io), 53 AN59/PQA7 (io), 55 XTAL, 56 VDDSYN (power), 57 EXTAL, 60 XFC, 63 CLKOUT (out), 64 ~{IPIPE}/DSO (out), 65 ~{IFETCH}/DSI (out), 66 FREEZE/QUOT (out), 67 ~{BKPT}/DSCLK (in), 68 ~{TSTME}/TSC (in), 69 ~{RESET} (io), 70 ~{HALT} (io), 71 ~{BERR} (in), 72 PF7/~{IRQ}7 (io), 73 PF6/~{IRQ}6 (io), 74 PF5/~{IRQ}5 (io), 75 PF4/~{IRQ}4 (io), 76 PF3/~{IRQ}3 (io), 77 PF2/~{IRQ}2 (io), 78 PF1/~{IRQ}1 (io), 79 PF0/MODCLK (io), 82 R/~{W} (out), 83 PE7/SIZ1 (io), 84 PE6/SIZ0 (io), 85 PE5/~{AS} (io), 86 PE4/~{DS} (io), 87 PE3/~{RMC} (io), 88 PE2/~{AVEC} (io), 89 PE1/~{DSACK}1 (io), 90 PE0/~{DSACK}0 (io), 91 ADDR0 (io), 93 DATA15 (io), 94 DATA14 (io), 96 DATA13 (io), 97 DATA12 (io), 98 DATA11 (io), 99 DATA10 (io), 100 DATA9 (io), 102 DATA8 (io), 103 DATA7 (io), 104 DATA6 (io), 105 DATA5 (io), 107 DATA4 (io), 108 DATA3 (io), 110 DATA2 (io), 111 DATA1 (io), 112 DATA0 (io), 113 ~{CSBOOT} (out), 114 ~{BR}/~{CS}0 (io), 115 ~{BG}/~{CS}1 (out), 116 ~{BGACK}/~{CS}2 (io), 117 FC0/~{CS}3 (out), 118 PC1/FC1/~{CS}4 (out), 119 PC2/FC2/~{CS}5 (out), 122 PC3/ADDR19/~{CS}6 (out), 123 PC4/ADDR20/~{CS}7 (out), 124 PC5/ADDR21/~{CS}8 (out), 125 PC6/ADDR22/~{CS}9 (out), 126 ADDR23/~{CS}10/ECLK (out), 127 T2CLK (in), 128 TPUCH15 (io), 129 TPUCH14 (io), 130 TPUCH13 (io), 132 TPUCH12 (io), 133 TPUCH11 (io), 135 VSTBY (power), 136 TPUCH10 (io), 137 TPUCH9 (io), 138 TPUCH8 (io), 139 TPUCH7 (io), 142 TPUCH6 (io), 143 TPUCH5 (io), 144 TPUCH4 (io), 145 TPUCH3 (io), 147 TPUCH2 (io), 148 TPUCH1 (io), 150 TPUCH0 (io), 151 CTD10 (io), 152 CTD9 (io), 153 CPWM8 (out), 154 CPWM7 (out), 155 CPWM6 (out), 156 CPWM5 (out), 157 CTD4 (io), 158 CTD3 (io), 159 CTM2C (in), 160 CANRX0 (in)
part B pins: 12 VDD (power), 15 VSS (power), 20 VSS (power), 30 VDD (power), 33 VSS (power), 54 VSS (power), 58 VSS (power), 59 VDD (power), 61 VDD (power), 62 VSS (power), 80 VDD (power), 81 VSS (power), 92 VDD (power), 95 VSS (power), 101 VSS (power), 106 VDD (power), 109 VSS (power), 120 VDD (power), 121 VSS (power), 131 VDD (power), 134 VSS (power), 140 VDD (power), 141 VSS (power), 146 VDD (power), 149 VSS (power)

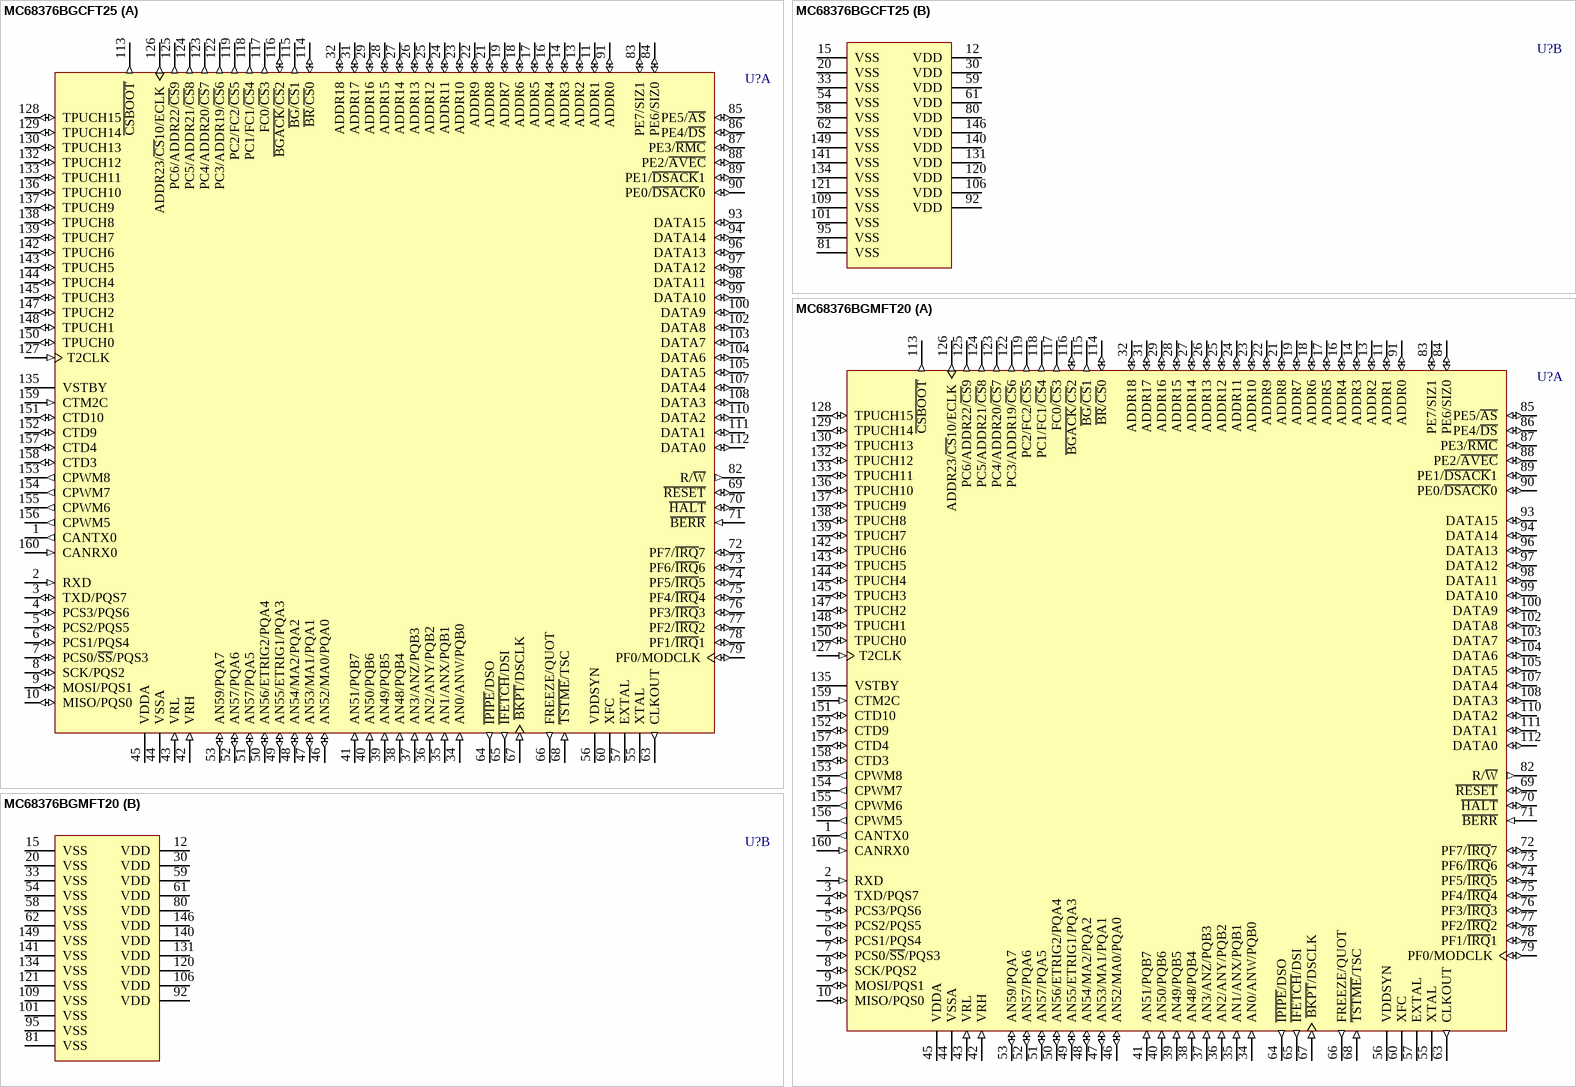
[diagram p188: symbols MC68376BGCFT25 to MC68376BGMFT20]

## MC68376BGCFT25
designator U?
32-Bit Microcontroller; Published: 21-Mar-2003; LatestRevisionDate: 13-Apr-2006; LatestRevisionNote: IPC-7351 Footprint Added.; DatasheetVersion: 15-Oct-2000; PackageVersion: 1996; PackageReference: 864A-03; Publisher: Altium Limited; PackageDescription: 160-Pin Plastic Quad Flat Pack 0.65 mm Pitch; Code_IPC: QFP65P3120X3120-160; ComponentLink1Description: Manufacturer Link; ComponentLink1URL: http://www.freescale.com/; ComponentLink2Description: Datasheet; ComponentLink2URL: http://www.freescale.com/files/microcontrollers/doc/data_sheet/MC683336_376UM_ZIP.zip
footprint 864A-03_N (QFP, 160-Leads, Body 28 x 28mm, Pitch 0.65mm, IPC Medium Density)
footprint 864A-03_L (QFP, 160-Leads, Body 28 x 28mm, Pitch 0.65mm, IPC High Density)
footprint 864A-03_M (QFP, 160-Leads, Body 28 x 28mm, Pitch 0.65mm, IPC Low Density)
3D model MC68376-864A-03 (160-Pin Plastic Quad Flat Pack 0.65 mm Pitch)
part A pins: 1 CANTX0 (out), 2 RXD (in), 3 TXD/PQS7 (io), 4 PCS3/PQS6 (io), 5 PCS2/PQS5 (io), 6 PCS1/PQS4 (io), 7 PCS0/~{SS}/PQS3 (io), 8 SCK/PQS2 (io), 9 MOSI/PQS1 (io), 10 MISO/PQS0 (io), 11 ADDR1 (io), 13 ADDR2 (io), 14 ADDR3 (io), 16 ADDR4 (io), 17 ADDR5 (io), 18 ADDR6 (io), 19 ADDR7 (io), 21 ADDR8 (io), 22 ADDR9 (io), 23 ADDR10 (io), 24 ADDR11 (io), 25 ADDR12 (io), 26 ADDR13 (io), 27 ADDR14 (io), 28 ADDR15 (io), 29 ADDR16 (io), 31 ADDR17 (io), 32 ADDR18 (io), 34 AN0/ANW/PQB0 (in), 35 AN1/ANX/PQB1 (in), 36 AN2/ANY/PQB2 (in), 37 AN3/ANZ/PQB3 (in), 38 AN48/PQB4 (in), 39 AN49/PQB5 (in), 40 AN50/PQB6 (in), 41 AN51/PQB7 (in), 42 VRH (in), 43 VRL (in), 44 VSSA (power), 45 VDDA (power), 46 AN52/MA0/PQA0 (io), 47 AN53/MA1/PQA1 (io), 48 AN54/MA2/PQA2 (io), 49 AN55/ETRIG1/PQA3 (io), 50 AN56/ETRIG2/PQA4 (io), 51 AN57/PQA5 (io), 52 AN57/PQA6 (io), 53 AN59/PQA7 (io), 55 XTAL, 56 VDDSYN (power), 57 EXTAL, 60 XFC, 63 CLKOUT (out), 64 ~{IPIPE}/DSO (out), 65 ~{IFETCH}/DSI (out), 66 FREEZE/QUOT (out), 67 ~{BKPT}/DSCLK (in), 68 ~{TSTME}/TSC (in), 69 ~{RESET} (io), 70 ~{HALT} (io), 71 ~{BERR} (in), 72 PF7/~{IRQ}7 (io), 73 PF6/~{IRQ}6 (io), 74 PF5/~{IRQ}5 (io), 75 PF4/~{IRQ}4 (io), 76 PF3/~{IRQ}3 (io), 77 PF2/~{IRQ}2 (io), 78 PF1/~{IRQ}1 (io), 79 PF0/MODCLK (io), 82 R/~{W} (out), 83 PE7/SIZ1 (io), 84 PE6/SIZ0 (io), 85 PE5/~{AS} (io), 86 PE4/~{DS} (io), 87 PE3/~{RMC} (io), 88 PE2/~{AVEC} (io), 89 PE1/~{DSACK}1 (io), 90 PE0/~{DSACK}0 (io), 91 ADDR0 (io), 93 DATA15 (io), 94 DATA14 (io), 96 DATA13 (io), 97 DATA12 (io), 98 DATA11 (io), 99 DATA10 (io), 100 DATA9 (io), 102 DATA8 (io), 103 DATA7 (io), 104 DATA6 (io), 105 DATA5 (io), 107 DATA4 (io), 108 DATA3 (io), 110 DATA2 (io), 111 DATA1 (io), 112 DATA0 (io), 113 ~{CSBOOT} (out), 114 ~{BR}/~{CS}0 (io), 115 ~{BG}/~{CS}1 (out), 116 ~{BGACK}/~{CS}2 (io), 117 FC0/~{CS}3 (out), 118 PC1/FC1/~{CS}4 (out), 119 PC2/FC2/~{CS}5 (out), 122 PC3/ADDR19/~{CS}6 (out), 123 PC4/ADDR20/~{CS}7 (out), 124 PC5/ADDR21/~{CS}8 (out), 125 PC6/ADDR22/~{CS}9 (out), 126 ADDR23/~{CS}10/ECLK (out), 127 T2CLK (in), 128 TPUCH15 (io), 129 TPUCH14 (io), 130 TPUCH13 (io), 132 TPUCH12 (io), 133 TPUCH11 (io), 135 VSTBY (power), 136 TPUCH10 (io), 137 TPUCH9 (io), 138 TPUCH8 (io), 139 TPUCH7 (io), 142 TPUCH6 (io), 143 TPUCH5 (io), 144 TPUCH4 (io), 145 TPUCH3 (io), 147 TPUCH2 (io), 148 TPUCH1 (io), 150 TPUCH0 (io), 151 CTD10 (io), 152 CTD9 (io), 153 CPWM8 (out), 154 CPWM7 (out), 155 CPWM6 (out), 156 CPWM5 (out), 157 CTD4 (io), 158 CTD3 (io), 159 CTM2C (in), 160 CANRX0 (in)
part B pins: 12 VDD (power), 15 VSS (power), 20 VSS (power), 30 VDD (power), 33 VSS (power), 54 VSS (power), 58 VSS (power), 59 VDD (power), 61 VDD (power), 62 VSS (power), 80 VDD (power), 81 VSS (power), 92 VDD (power), 95 VSS (power), 101 VSS (power), 106 VDD (power), 109 VSS (power), 120 VDD (power), 121 VSS (power), 131 VDD (power), 134 VSS (power), 140 VDD (power), 141 VSS (power), 146 VDD (power), 149 VSS (power)

## MC68376BGMFT20
designator U?
32-Bit Microcontroller; Published: 21-Mar-2003; LatestRevisionDate: 13-Apr-2006; LatestRevisionNote: IPC-7351 Footprint Added.; DatasheetVersion: 15-Oct-2000; PackageVersion: 1996; PackageReference: 864A-03; Publisher: Altium Limited; PackageDescription: 160-Pin Plastic Quad Flat Pack 0.65 mm Pitch; Code_IPC: QFP65P3120X3120-160; ComponentLink1Description: Manufacturer Link; ComponentLink1URL: http://www.freescale.com/; ComponentLink2Description: Datasheet; ComponentLink2URL: http://www.freescale.com/files/microcontrollers/doc/data_sheet/MC683336_376UM_ZIP.zip
footprint 864A-03_N (QFP, 160-Leads, Body 28 x 28mm, Pitch 0.65mm, IPC Medium Density)
footprint 864A-03_L (QFP, 160-Leads, Body 28 x 28mm, Pitch 0.65mm, IPC High Density)
footprint 864A-03_M (QFP, 160-Leads, Body 28 x 28mm, Pitch 0.65mm, IPC Low Density)
3D model MC68376-864A-03 (160-Pin Plastic Quad Flat Pack 0.65 mm Pitch)
part A pins: 1 CANTX0 (out), 2 RXD (in), 3 TXD/PQS7 (io), 4 PCS3/PQS6 (io), 5 PCS2/PQS5 (io), 6 PCS1/PQS4 (io), 7 PCS0/~{SS}/PQS3 (io), 8 SCK/PQS2 (io), 9 MOSI/PQS1 (io), 10 MISO/PQS0 (io), 11 ADDR1 (io), 13 ADDR2 (io), 14 ADDR3 (io), 16 ADDR4 (io), 17 ADDR5 (io), 18 ADDR6 (io), 19 ADDR7 (io), 21 ADDR8 (io), 22 ADDR9 (io), 23 ADDR10 (io), 24 ADDR11 (io), 25 ADDR12 (io), 26 ADDR13 (io), 27 ADDR14 (io), 28 ADDR15 (io), 29 ADDR16 (io), 31 ADDR17 (io), 32 ADDR18 (io), 34 AN0/ANW/PQB0 (in), 35 AN1/ANX/PQB1 (in), 36 AN2/ANY/PQB2 (in), 37 AN3/ANZ/PQB3 (in), 38 AN48/PQB4 (in), 39 AN49/PQB5 (in), 40 AN50/PQB6 (in), 41 AN51/PQB7 (in), 42 VRH (in), 43 VRL (in), 44 VSSA (power), 45 VDDA (power), 46 AN52/MA0/PQA0 (io), 47 AN53/MA1/PQA1 (io), 48 AN54/MA2/PQA2 (io), 49 AN55/ETRIG1/PQA3 (io), 50 AN56/ETRIG2/PQA4 (io), 51 AN57/PQA5 (io), 52 AN57/PQA6 (io), 53 AN59/PQA7 (io), 55 XTAL, 56 VDDSYN (power), 57 EXTAL, 60 XFC, 63 CLKOUT (out), 64 ~{IPIPE}/DSO (out), 65 ~{IFETCH}/DSI (out), 66 FREEZE/QUOT (out), 67 ~{BKPT}/DSCLK (in), 68 ~{TSTME}/TSC (in), 69 ~{RESET} (io), 70 ~{HALT} (io), 71 ~{BERR} (in), 72 PF7/~{IRQ}7 (io), 73 PF6/~{IRQ}6 (io), 74 PF5/~{IRQ}5 (io), 75 PF4/~{IRQ}4 (io), 76 PF3/~{IRQ}3 (io), 77 PF2/~{IRQ}2 (io), 78 PF1/~{IRQ}1 (io), 79 PF0/MODCLK (io), 82 R/~{W} (out), 83 PE7/SIZ1 (io), 84 PE6/SIZ0 (io), 85 PE5/~{AS} (io), 86 PE4/~{DS} (io), 87 PE3/~{RMC} (io), 88 PE2/~{AVEC} (io), 89 PE1/~{DSACK}1 (io), 90 PE0/~{DSACK}0 (io), 91 ADDR0 (io), 93 DATA15 (io), 94 DATA14 (io), 96 DATA13 (io), 97 DATA12 (io), 98 DATA11 (io), 99 DATA10 (io), 100 DATA9 (io), 102 DATA8 (io), 103 DATA7 (io), 104 DATA6 (io), 105 DATA5 (io), 107 DATA4 (io), 108 DATA3 (io), 110 DATA2 (io), 111 DATA1 (io), 112 DATA0 (io), 113 ~{CSBOOT} (out), 114 ~{BR}/~{CS}0 (io), 115 ~{BG}/~{CS}1 (out), 116 ~{BGACK}/~{CS}2 (io), 117 FC0/~{CS}3 (out), 118 PC1/FC1/~{CS}4 (out), 119 PC2/FC2/~{CS}5 (out), 122 PC3/ADDR19/~{CS}6 (out), 123 PC4/ADDR20/~{CS}7 (out), 124 PC5/ADDR21/~{CS}8 (out), 125 PC6/ADDR22/~{CS}9 (out), 126 ADDR23/~{CS}10/ECLK (out), 127 T2CLK (in), 128 TPUCH15 (io), 129 TPUCH14 (io), 130 TPUCH13 (io), 132 TPUCH12 (io), 133 TPUCH11 (io), 135 VSTBY (power), 136 TPUCH10 (io), 137 TPUCH9 (io), 138 TPUCH8 (io), 139 TPUCH7 (io), 142 TPUCH6 (io), 143 TPUCH5 (io), 144 TPUCH4 (io), 145 TPUCH3 (io), 147 TPUCH2 (io), 148 TPUCH1 (io), 150 TPUCH0 (io), 151 CTD10 (io), 152 CTD9 (io), 153 CPWM8 (out), 154 CPWM7 (out), 155 CPWM6 (out), 156 CPWM5 (out), 157 CTD4 (io), 158 CTD3 (io), 159 CTM2C (in), 160 CANRX0 (in)
part B pins: 12 VDD (power), 15 VSS (power), 20 VSS (power), 30 VDD (power), 33 VSS (power), 54 VSS (power), 58 VSS (power), 59 VDD (power), 61 VDD (power), 62 VSS (power), 80 VDD (power), 81 VSS (power), 92 VDD (power), 95 VSS (power), 101 VSS (power), 106 VDD (power), 109 VSS (power), 120 VDD (power), 121 VSS (power), 131 VDD (power), 134 VSS (power), 140 VDD (power), 141 VSS (power), 146 VDD (power), 149 VSS (power)

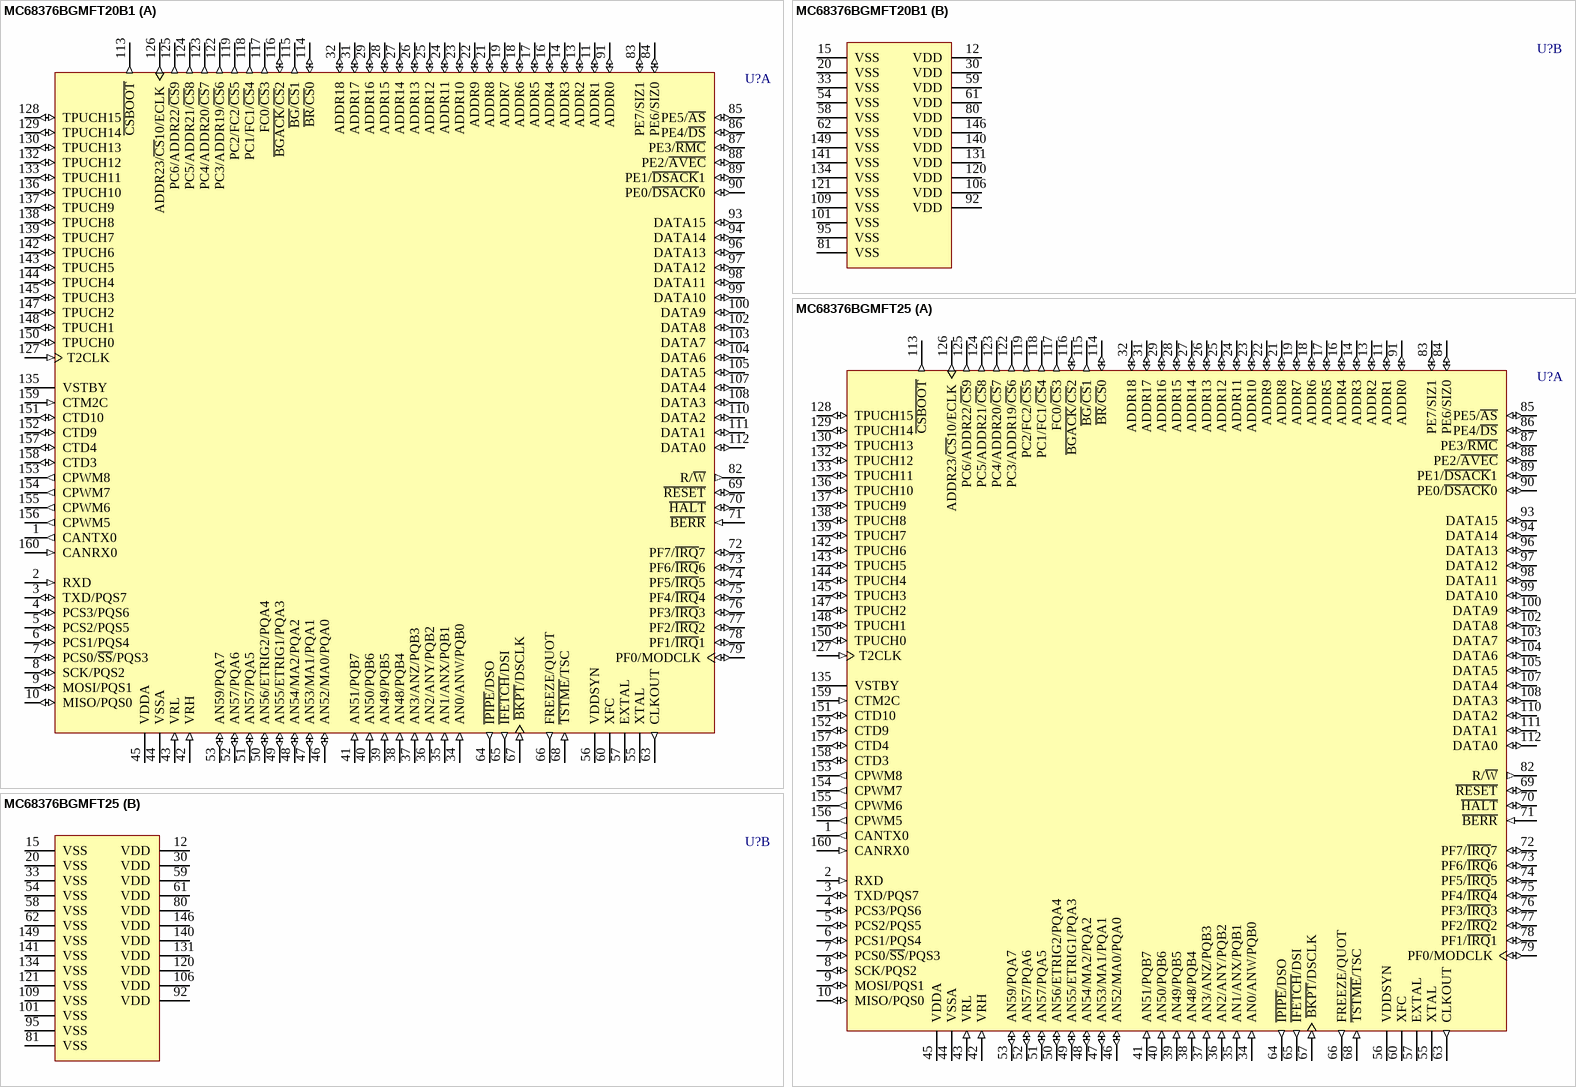
[diagram p189: symbols MC68376BGMFT20B1 to MC68376BGMFT25]

## MC68376BGMFT20B1
designator U?
32-Bit Microcontroller; Published: 21-Mar-2003; LatestRevisionDate: 13-Apr-2006; LatestRevisionNote: IPC-7351 Footprint Added.; DatasheetVersion: 15-Oct-2000; PackageVersion: 1996; PackageReference: 864A-03; Publisher: Altium Limited; PackageDescription: 160-Pin Plastic Quad Flat Pack 0.65 mm Pitch; Code_IPC: QFP65P3120X3120-160; ComponentLink1Description: Manufacturer Link; ComponentLink1URL: http://www.freescale.com/; ComponentLink2Description: Datasheet; ComponentLink2URL: http://www.freescale.com/files/microcontrollers/doc/data_sheet/MC683336_376UM_ZIP.zip
footprint 864A-03_N (QFP, 160-Leads, Body 28 x 28mm, Pitch 0.65mm, IPC Medium Density)
footprint 864A-03_L (QFP, 160-Leads, Body 28 x 28mm, Pitch 0.65mm, IPC High Density)
footprint 864A-03_M (QFP, 160-Leads, Body 28 x 28mm, Pitch 0.65mm, IPC Low Density)
3D model MC68376-864A-03 (160-Pin Plastic Quad Flat Pack 0.65 mm Pitch)
part A pins: 1 CANTX0 (out), 2 RXD (in), 3 TXD/PQS7 (io), 4 PCS3/PQS6 (io), 5 PCS2/PQS5 (io), 6 PCS1/PQS4 (io), 7 PCS0/~{SS}/PQS3 (io), 8 SCK/PQS2 (io), 9 MOSI/PQS1 (io), 10 MISO/PQS0 (io), 11 ADDR1 (io), 13 ADDR2 (io), 14 ADDR3 (io), 16 ADDR4 (io), 17 ADDR5 (io), 18 ADDR6 (io), 19 ADDR7 (io), 21 ADDR8 (io), 22 ADDR9 (io), 23 ADDR10 (io), 24 ADDR11 (io), 25 ADDR12 (io), 26 ADDR13 (io), 27 ADDR14 (io), 28 ADDR15 (io), 29 ADDR16 (io), 31 ADDR17 (io), 32 ADDR18 (io), 34 AN0/ANW/PQB0 (in), 35 AN1/ANX/PQB1 (in), 36 AN2/ANY/PQB2 (in), 37 AN3/ANZ/PQB3 (in), 38 AN48/PQB4 (in), 39 AN49/PQB5 (in), 40 AN50/PQB6 (in), 41 AN51/PQB7 (in), 42 VRH (in), 43 VRL (in), 44 VSSA (power), 45 VDDA (power), 46 AN52/MA0/PQA0 (io), 47 AN53/MA1/PQA1 (io), 48 AN54/MA2/PQA2 (io), 49 AN55/ETRIG1/PQA3 (io), 50 AN56/ETRIG2/PQA4 (io), 51 AN57/PQA5 (io), 52 AN57/PQA6 (io), 53 AN59/PQA7 (io), 55 XTAL, 56 VDDSYN (power), 57 EXTAL, 60 XFC, 63 CLKOUT (out), 64 ~{IPIPE}/DSO (out), 65 ~{IFETCH}/DSI (out), 66 FREEZE/QUOT (out), 67 ~{BKPT}/DSCLK (in), 68 ~{TSTME}/TSC (in), 69 ~{RESET} (io), 70 ~{HALT} (io), 71 ~{BERR} (in), 72 PF7/~{IRQ}7 (io), 73 PF6/~{IRQ}6 (io), 74 PF5/~{IRQ}5 (io), 75 PF4/~{IRQ}4 (io), 76 PF3/~{IRQ}3 (io), 77 PF2/~{IRQ}2 (io), 78 PF1/~{IRQ}1 (io), 79 PF0/MODCLK (io), 82 R/~{W} (out), 83 PE7/SIZ1 (io), 84 PE6/SIZ0 (io), 85 PE5/~{AS} (io), 86 PE4/~{DS} (io), 87 PE3/~{RMC} (io), 88 PE2/~{AVEC} (io), 89 PE1/~{DSACK}1 (io), 90 PE0/~{DSACK}0 (io), 91 ADDR0 (io), 93 DATA15 (io), 94 DATA14 (io), 96 DATA13 (io), 97 DATA12 (io), 98 DATA11 (io), 99 DATA10 (io), 100 DATA9 (io), 102 DATA8 (io), 103 DATA7 (io), 104 DATA6 (io), 105 DATA5 (io), 107 DATA4 (io), 108 DATA3 (io), 110 DATA2 (io), 111 DATA1 (io), 112 DATA0 (io), 113 ~{CSBOOT} (out), 114 ~{BR}/~{CS}0 (io), 115 ~{BG}/~{CS}1 (out), 116 ~{BGACK}/~{CS}2 (io), 117 FC0/~{CS}3 (out), 118 PC1/FC1/~{CS}4 (out), 119 PC2/FC2/~{CS}5 (out), 122 PC3/ADDR19/~{CS}6 (out), 123 PC4/ADDR20/~{CS}7 (out), 124 PC5/ADDR21/~{CS}8 (out), 125 PC6/ADDR22/~{CS}9 (out), 126 ADDR23/~{CS}10/ECLK (out), 127 T2CLK (in), 128 TPUCH15 (io), 129 TPUCH14 (io), 130 TPUCH13 (io), 132 TPUCH12 (io), 133 TPUCH11 (io), 135 VSTBY (power), 136 TPUCH10 (io), 137 TPUCH9 (io), 138 TPUCH8 (io), 139 TPUCH7 (io), 142 TPUCH6 (io), 143 TPUCH5 (io), 144 TPUCH4 (io), 145 TPUCH3 (io), 147 TPUCH2 (io), 148 TPUCH1 (io), 150 TPUCH0 (io), 151 CTD10 (io), 152 CTD9 (io), 153 CPWM8 (out), 154 CPWM7 (out), 155 CPWM6 (out), 156 CPWM5 (out), 157 CTD4 (io), 158 CTD3 (io), 159 CTM2C (in), 160 CANRX0 (in)
part B pins: 12 VDD (power), 15 VSS (power), 20 VSS (power), 30 VDD (power), 33 VSS (power), 54 VSS (power), 58 VSS (power), 59 VDD (power), 61 VDD (power), 62 VSS (power), 80 VDD (power), 81 VSS (power), 92 VDD (power), 95 VSS (power), 101 VSS (power), 106 VDD (power), 109 VSS (power), 120 VDD (power), 121 VSS (power), 131 VDD (power), 134 VSS (power), 140 VDD (power), 141 VSS (power), 146 VDD (power), 149 VSS (power)

## MC68376BGMFT25
designator U?
32-Bit Microcontroller; Published: 21-Mar-2003; LatestRevisionDate: 13-Apr-2006; LatestRevisionNote: IPC-7351 Footprint Added.; DatasheetVersion: 15-Oct-2000; PackageVersion: 1996; PackageReference: 864A-03; Publisher: Altium Limited; PackageDescription: 160-Pin Plastic Quad Flat Pack 0.65 mm Pitch; Code_IPC: QFP65P3120X3120-160; ComponentLink1Description: Manufacturer Link; ComponentLink1URL: http://www.freescale.com/; ComponentLink2Description: Datasheet; ComponentLink2URL: http://www.freescale.com/files/microcontrollers/doc/data_sheet/MC683336_376UM_ZIP.zip
footprint 864A-03_N (QFP, 160-Leads, Body 28 x 28mm, Pitch 0.65mm, IPC Medium Density)
footprint 864A-03_L (QFP, 160-Leads, Body 28 x 28mm, Pitch 0.65mm, IPC High Density)
footprint 864A-03_M (QFP, 160-Leads, Body 28 x 28mm, Pitch 0.65mm, IPC Low Density)
3D model MC68376-864A-03 (160-Pin Plastic Quad Flat Pack 0.65 mm Pitch)
part A pins: 1 CANTX0 (out), 2 RXD (in), 3 TXD/PQS7 (io), 4 PCS3/PQS6 (io), 5 PCS2/PQS5 (io), 6 PCS1/PQS4 (io), 7 PCS0/~{SS}/PQS3 (io), 8 SCK/PQS2 (io), 9 MOSI/PQS1 (io), 10 MISO/PQS0 (io), 11 ADDR1 (io), 13 ADDR2 (io), 14 ADDR3 (io), 16 ADDR4 (io), 17 ADDR5 (io), 18 ADDR6 (io), 19 ADDR7 (io), 21 ADDR8 (io), 22 ADDR9 (io), 23 ADDR10 (io), 24 ADDR11 (io), 25 ADDR12 (io), 26 ADDR13 (io), 27 ADDR14 (io), 28 ADDR15 (io), 29 ADDR16 (io), 31 ADDR17 (io), 32 ADDR18 (io), 34 AN0/ANW/PQB0 (in), 35 AN1/ANX/PQB1 (in), 36 AN2/ANY/PQB2 (in), 37 AN3/ANZ/PQB3 (in), 38 AN48/PQB4 (in), 39 AN49/PQB5 (in), 40 AN50/PQB6 (in), 41 AN51/PQB7 (in), 42 VRH (in), 43 VRL (in), 44 VSSA (power), 45 VDDA (power), 46 AN52/MA0/PQA0 (io), 47 AN53/MA1/PQA1 (io), 48 AN54/MA2/PQA2 (io), 49 AN55/ETRIG1/PQA3 (io), 50 AN56/ETRIG2/PQA4 (io), 51 AN57/PQA5 (io), 52 AN57/PQA6 (io), 53 AN59/PQA7 (io), 55 XTAL, 56 VDDSYN (power), 57 EXTAL, 60 XFC, 63 CLKOUT (out), 64 ~{IPIPE}/DSO (out), 65 ~{IFETCH}/DSI (out), 66 FREEZE/QUOT (out), 67 ~{BKPT}/DSCLK (in), 68 ~{TSTME}/TSC (in), 69 ~{RESET} (io), 70 ~{HALT} (io), 71 ~{BERR} (in), 72 PF7/~{IRQ}7 (io), 73 PF6/~{IRQ}6 (io), 74 PF5/~{IRQ}5 (io), 75 PF4/~{IRQ}4 (io), 76 PF3/~{IRQ}3 (io), 77 PF2/~{IRQ}2 (io), 78 PF1/~{IRQ}1 (io), 79 PF0/MODCLK (io), 82 R/~{W} (out), 83 PE7/SIZ1 (io), 84 PE6/SIZ0 (io), 85 PE5/~{AS} (io), 86 PE4/~{DS} (io), 87 PE3/~{RMC} (io), 88 PE2/~{AVEC} (io), 89 PE1/~{DSACK}1 (io), 90 PE0/~{DSACK}0 (io), 91 ADDR0 (io), 93 DATA15 (io), 94 DATA14 (io), 96 DATA13 (io), 97 DATA12 (io), 98 DATA11 (io), 99 DATA10 (io), 100 DATA9 (io), 102 DATA8 (io), 103 DATA7 (io), 104 DATA6 (io), 105 DATA5 (io), 107 DATA4 (io), 108 DATA3 (io), 110 DATA2 (io), 111 DATA1 (io), 112 DATA0 (io), 113 ~{CSBOOT} (out), 114 ~{BR}/~{CS}0 (io), 115 ~{BG}/~{CS}1 (out), 116 ~{BGACK}/~{CS}2 (io), 117 FC0/~{CS}3 (out), 118 PC1/FC1/~{CS}4 (out), 119 PC2/FC2/~{CS}5 (out), 122 PC3/ADDR19/~{CS}6 (out), 123 PC4/ADDR20/~{CS}7 (out), 124 PC5/ADDR21/~{CS}8 (out), 125 PC6/ADDR22/~{CS}9 (out), 126 ADDR23/~{CS}10/ECLK (out), 127 T2CLK (in), 128 TPUCH15 (io), 129 TPUCH14 (io), 130 TPUCH13 (io), 132 TPUCH12 (io), 133 TPUCH11 (io), 135 VSTBY (power), 136 TPUCH10 (io), 137 TPUCH9 (io), 138 TPUCH8 (io), 139 TPUCH7 (io), 142 TPUCH6 (io), 143 TPUCH5 (io), 144 TPUCH4 (io), 145 TPUCH3 (io), 147 TPUCH2 (io), 148 TPUCH1 (io), 150 TPUCH0 (io), 151 CTD10 (io), 152 CTD9 (io), 153 CPWM8 (out), 154 CPWM7 (out), 155 CPWM6 (out), 156 CPWM5 (out), 157 CTD4 (io), 158 CTD3 (io), 159 CTM2C (in), 160 CANRX0 (in)
part B pins: 12 VDD (power), 15 VSS (power), 20 VSS (power), 30 VDD (power), 33 VSS (power), 54 VSS (power), 58 VSS (power), 59 VDD (power), 61 VDD (power), 62 VSS (power), 80 VDD (power), 81 VSS (power), 92 VDD (power), 95 VSS (power), 101 VSS (power), 106 VDD (power), 109 VSS (power), 120 VDD (power), 121 VSS (power), 131 VDD (power), 134 VSS (power), 140 VDD (power), 141 VSS (power), 146 VDD (power), 149 VSS (power)

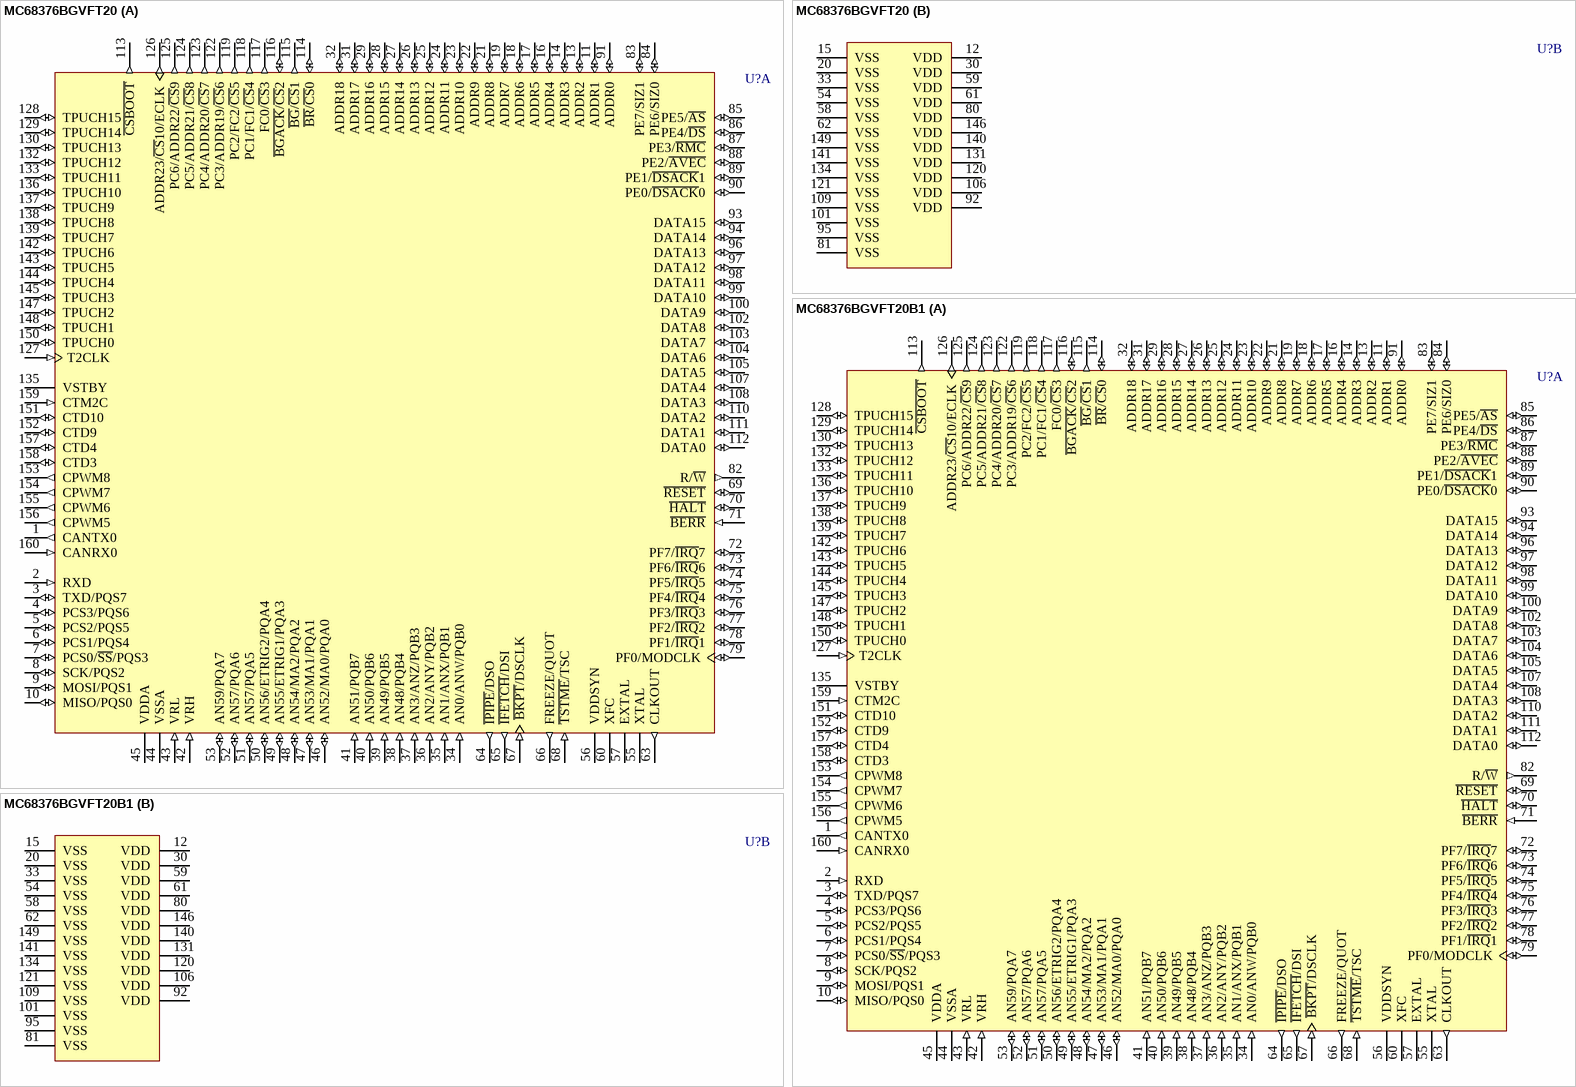
[diagram p190: symbols MC68376BGVFT20 to MC68376BGVFT20B1]